# Altium schematic symbol library kmilo17pet-NSC_Interface.SchLib: 1433 symbols (part 49 of 51)
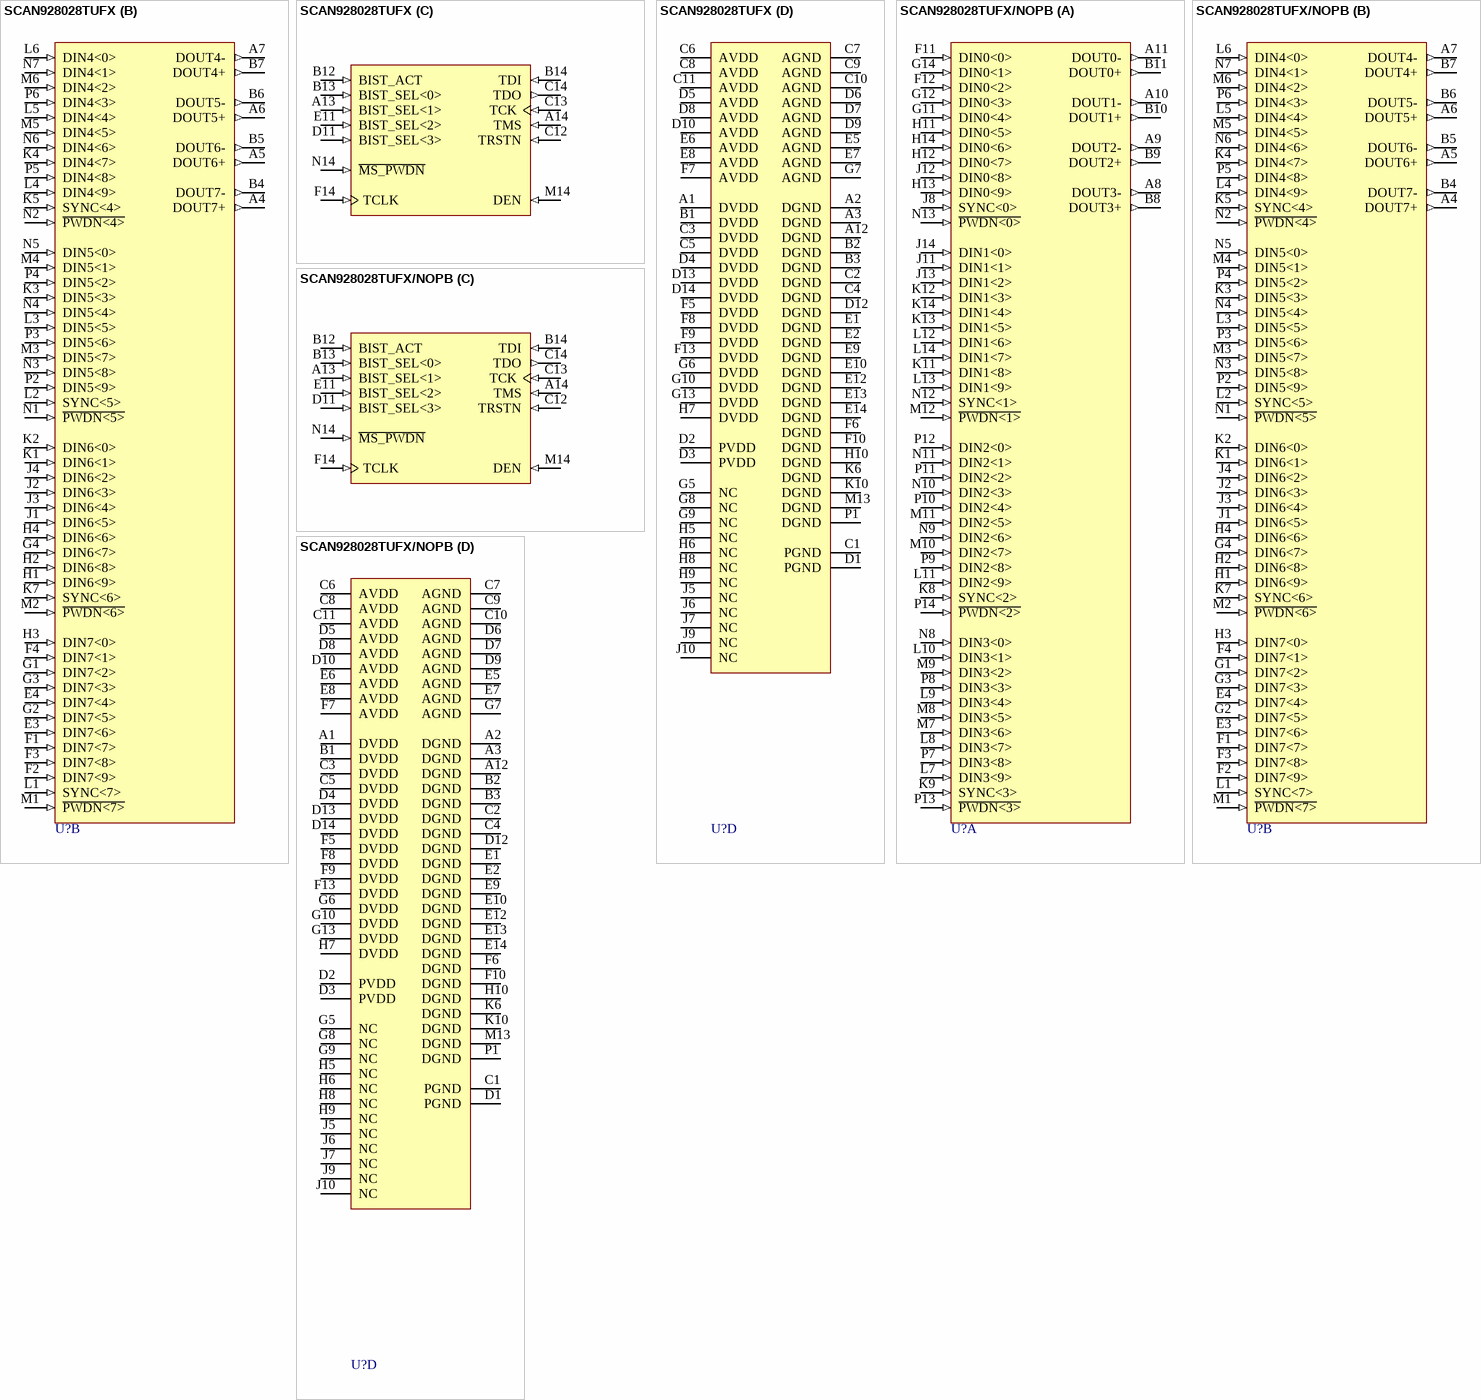
[diagram p172: symbols SCAN928028TUFX to SCAN928028TUFX/NOPB]

## SCAN928028TUFX/NOPB
designator U?
8 Channel 10:1 Serializer with IEEE 1149.1 and At-Speed BIST, 196-pin LBGA, Pb-Free; PartNumber: SCAN928028TUFX/NOPB; Manufacturer: National Semiconductor; PackageTopMarking: NSUZXYYTTE#*SCAN928028T*UF*BBBBB; PowerWise: N; CompType: Interface IC; High-Reliability: Y; DatasheetVersion: May-2008; PackageVersion: revC, Jul-2005; PackageReference: UJB196A; PackageDescription: LBGA, 15 x 15 x 1.37mm, 196 Ball, 1.0mm Pitch; RoHS: Y; PinCount: 196; Code_JEDEC: MO-192-AAE-1; ComponentLink1Description: Manufacturer URL; ComponentLink1URL: http://www.national.com/; ComponentLink2Description: SCAN928028 Datasheet; ComponentLink2URL: http://www.national.com/ds/SC/SCAN928028.pdf; ComponentLink3Description: SCAN928028 Web Page; ComponentLink3URL: http://www.national.com/pf/SC/SCAN928028.html; ComponentLink4Description: UJB196A Package Page; ComponentLink4URL: http://www.national.com/packaging/folders/ujb196a.html
footprint UJB196A (BGA, 196-Leads, Body 15x15mm, Pitch 1mm)
part A pins: A8 DOUT3- (out), A9 DOUT2- (out), A10 DOUT1- (out), A11 DOUT0- (out), B8 DOUT3+ (out), B9 DOUT2+ (out), B10 DOUT1+ (out), B11 DOUT0+ (out), F11 DIN0<0> (in), F12 DIN0<2> (in), G11 DIN0<4> (in), G12 DIN0<3> (in), G14 DIN0<1> (in), H11 DIN0<5> (in), H12 DIN0<7> (in), H13 DIN0<9> (in), H14 DIN0<6> (in), J8 SYNC<0> (in), J11 DIN1<1> (in), J12 DIN0<8> (in), J13 DIN1<2> (in), J14 DIN1<0> (in), K8 SYNC<2> (in), K9 SYNC<3> (in), K11 DIN1<8> (in), K12 DIN1<3> (in), K13 DIN1<5> (in), K14 DIN1<4> (in), L7 DIN3<9> (in), L8 DIN3<7> (in), L9 DIN3<4> (in), L10 DIN3<1> (in), L11 DIN2<9> (in), L12 DIN1<6> (in), L13 DIN1<9> (in), L14 DIN1<7> (in), M7 DIN3<6> (in), M8 DIN3<5> (in), M9 DIN3<2> (in), M10 DIN2<7> (in), M11 DIN2<5> (in), M12 ~{PWDN<1>} (in), N8 DIN3<0> (in), N9 DIN2<6> (in), N10 DIN2<3> (in), N11 DIN2<1> (in), N12 SYNC<1> (in), N13 ~{PWDN<0>} (in), P7 DIN3<8> (in), P8 DIN3<3> (in), P9 DIN2<8> (in), P10 DIN2<4> (in), P11 DIN2<2> (in), P12 DIN2<0> (in), P13 ~{PWDN<3>} (in), P14 ~{PWDN<2>} (in)
part B pins: A4 DOUT7+ (out), A5 DOUT6+ (out), A6 DOUT5+ (out), A7 DOUT4- (out), B4 DOUT7- (out), B5 DOUT6- (out), B6 DOUT5- (out), B7 DOUT4+ (out), E3 DIN7<6> (in), E4 DIN7<4> (in), F1 DIN7<7> (in), F2 DIN7<9> (in), F3 DIN7<8> (in), F4 DIN7<1> (in), G1 DIN7<2> (in), G2 DIN7<5> (in), G3 DIN7<3> (in), G4 DIN6<7> (in), H1 DIN6<9> (in), H2 DIN6<8> (in), H3 DIN7<0> (in), H4 DIN6<6> (in), J1 DIN6<5> (in), J2 DIN6<3> (in), J3 DIN6<4> (in), J4 DIN6<2> (in), K1 DIN6<1> (in), K2 DIN6<0> (in), K3 DIN5<3> (in), K4 DIN4<7> (in), K5 SYNC<4> (in), K7 SYNC<6> (in), L1 SYNC<7> (in), L2 SYNC<5> (in), L3 DIN5<5> (in), L4 DIN4<9> (in), L5 DIN4<4> (in), L6 DIN4<0> (in), M1 ~{PWDN<7>} (in), M2 ~{PWDN<6>} (in), M3 DIN5<7> (in), M4 DIN5<1> (in), M5 DIN4<5> (in), M6 DIN4<2> (in), N1 ~{PWDN<5>} (in), N2 ~{PWDN<4>} (in), N3 DIN5<8> (in), N4 DIN5<4> (in), N5 DIN5<0> (in), N6 DIN4<6> (in), N7 DIN4<1> (in), P2 DIN5<9> (in), P3 DIN5<6> (in), P4 DIN5<2> (in), P5 DIN4<8> (in), P6 DIN4<3> (in)
part C pins: A13 BIST_SEL<1> (in), A14 TMS (in), B12 BIST_ACT (in), B13 BIST_SEL<0> (in), B14 TDI (in), C12 TRSTN (in), C13 TCK (in), C14 TDO (out), D11 BIST_SEL<3> (in), E11 BIST_SEL<2> (in), F14 TCLK (in), M14 DEN (in), N14 ~{MS_PWDN} (in)
part D pins: A1 DVDD (power), A2 DGND (power), A3 DGND (power), A12 DGND (power), B1 DVDD (power), B2 DGND (power), B3 DGND (power), C1 PGND (power), C2 DGND (power), C3 DVDD (power), C4 DGND (power), C5 DVDD (power), C6 AVDD (power), C7 AGND (power), C8 AVDD (power), C9 AGND (power), C10 AGND (power), C11 AVDD (power), D1 PGND (power), D2 PVDD (power), D3 PVDD (power), D4 DVDD (power), D5 AVDD (power), D6 AGND (power), D7 AGND (power), D8 AVDD (power), D9 AGND (power), D10 AVDD (power), D12 DGND (power), D13 DVDD (power), D14 DVDD (power), E1 DGND (power), E2 DGND (power), E5 AGND (power), E6 AVDD (power), E7 AGND (power), E8 AVDD (power), E9 DGND (power), E10 DGND (power), E12 DGND (power), E13 DGND (power), E14 DGND (power), F5 DVDD (power), F6 DGND (power), F7 AVDD (power), F8 DVDD (power), F9 DVDD (power), F10 DGND (power), F13 DVDD (power), G5 NC, G6 DVDD (power), G7 AGND (power), G8 NC, G9 NC, G10 DVDD (power), G13 DVDD (power), H5 NC, H6 NC, H7 DVDD (power), H8 NC, H9 NC, H10 DGND (power), J5 NC, J6 NC, J7 NC, J9 NC, J10 NC, K6 DGND (power), K10 DGND (power), M13 DGND (power), P1 DGND (power)

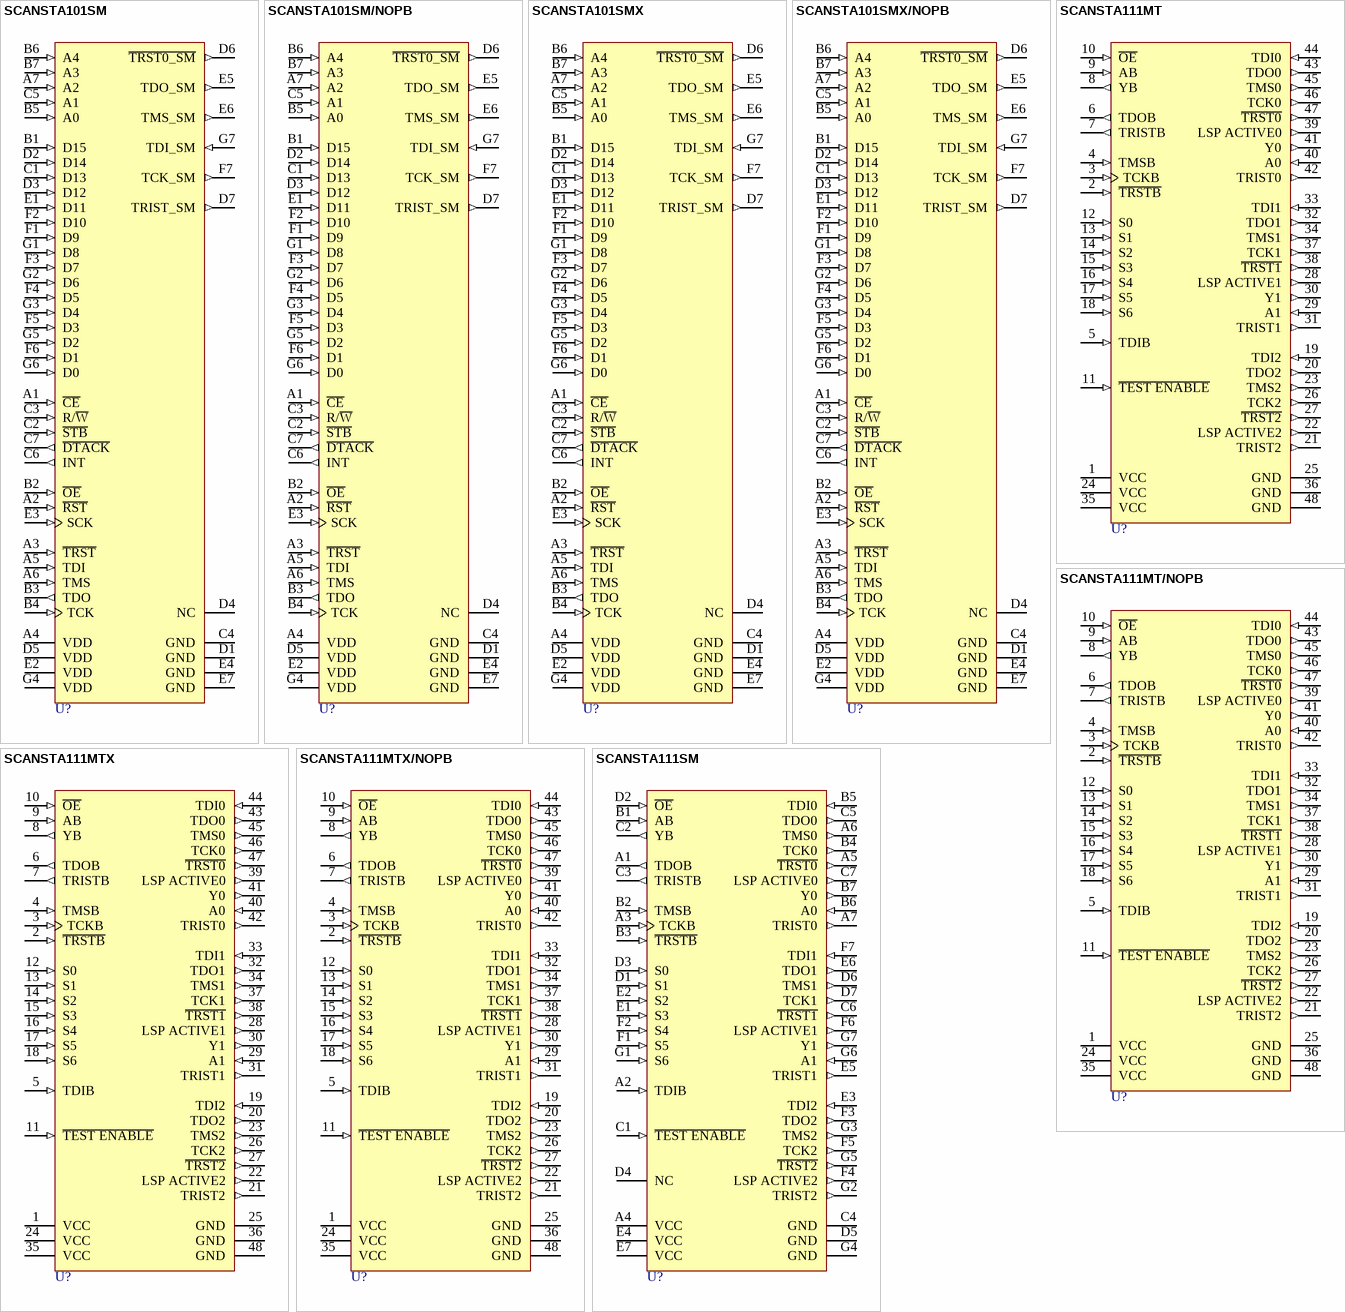
[diagram p120: symbols SCANSTA101SM to SCANSTA111SM]

## SCANSTA101SM
designator U?
Low Voltage IEEE 1149.1 STA Master, 49-pin FBGA; PartNumber: SCANSTA101SM; Manufacturer: National Semiconductor; PackageTopMarking: NSUZXYTTE#*SCANSTA101*SM; PowerWise: N; CompType: Interface IC; High-Reliability: Y; DatasheetVersion: Jan-2010; PackageVersion: revB, Jan, 2003; PackageReference: SLC49A; PackageDescription: FBGA, Plastic, Laminated, 7 x 7 x 1.4mm Body, 49 Ball, 0.8mm Pitch; RoHS: N; PinCount: 49; ComponentLink1Description: Manufacturer URL; ComponentLink1URL: http://www.national.com/; ComponentLink2Description: SCANSTA101 Datasheet; ComponentLink2URL: http://www.national.com/ds/SC/SCANSTA101.pdf; ComponentLink3Description: SCANSTA101 Web Page; ComponentLink3URL: http://www.national.com/pf/SC/SCANSTA101.html; ComponentLink4Description: SLC49A Package Page; ComponentLink4URL: http://www.national.com/packaging/folders/slc49a.html
footprint SLC49A (BGA, 49-Leads, Body 7x7mm, Pitch 0.8mm)
pins: A1 ~{CE} (in), A2 ~{RST} (in), A3 ~{TRST} (in), A4 VDD (power), A5 TDI (in), A6 TMS (in), A7 A2 (in), B1 D15 (in), B2 ~{OE} (in), B3 TDO (out), B4 TCK (in), B5 A0 (in), B6 A4 (in), B7 A3 (in), C1 D13 (in), C2 ~{STB} (in), C3 R/~{W} (in), C4 GND (power), C5 A1 (in), C6 INT (out), C7 ~{DTACK} (out), D1 GND (power), D2 D14 (in), D3 D12 (in), D4 NC, D5 VDD (power), D6 ~{TRST0_SM} (out), D7 TRIST_SM (out), E1 D11 (in), E2 VDD (power), E3 SCK (in), E4 GND (power), E5 TDO_SM (out), E6 TMS_SM (out), E7 GND (power), F1 D9 (in), F2 D10 (in), F3 D7 (in), F4 D5 (in), F5 D3 (in), F6 D1 (in), F7 TCK_SM (out), G1 D8 (in), G2 D6 (in), G3 D4 (in), G4 VDD (power), G5 D2 (in), G6 D0 (in), G7 TDI_SM (in)

## SCANSTA101SM/NOPB
designator U?
Low Voltage IEEE 1149.1 System Test Access (STA) Master, 49-pin FBGA, Pb-Free; PartNumber: SCANSTA101SM/NOPB; Manufacturer: National Semiconductor; PackageTopMarking: NSUZXYTTE#*SCANSTA101*SM; PowerWise: N; CompType: Interface IC; High-Reliability: Y; DatasheetVersion: Jan-2010; PackageVersion: revB, Jan, 2003; PackageReference: SLC49A; PackageDescription: FBGA, Plastic, Laminated, 7 x 7 x 1.4mm Body, 49 Ball, 0.8mm Pitch; RoHS: Y; PinCount: 49; ComponentLink1Description: Manufacturer URL; ComponentLink1URL: http://www.national.com/; ComponentLink2Description: SCANSTA101 Datasheet; ComponentLink2URL: http://www.national.com/ds/SC/SCANSTA101.pdf; ComponentLink3Description: SCANSTA101 Web Page; ComponentLink3URL: http://www.national.com/pf/SC/SCANSTA101.html; ComponentLink4Description: SLC49A Package Page; ComponentLink4URL: http://www.national.com/packaging/folders/slc49a.html
footprint SLC49A (BGA, 49-Leads, Body 7x7mm, Pitch 0.8mm)
pins: A1 ~{CE} (in), A2 ~{RST} (in), A3 ~{TRST} (in), A4 VDD (power), A5 TDI (in), A6 TMS (in), A7 A2 (in), B1 D15 (in), B2 ~{OE} (in), B3 TDO (out), B4 TCK (in), B5 A0 (in), B6 A4 (in), B7 A3 (in), C1 D13 (in), C2 ~{STB} (in), C3 R/~{W} (in), C4 GND (power), C5 A1 (in), C6 INT (out), C7 ~{DTACK} (out), D1 GND (power), D2 D14 (in), D3 D12 (in), D4 NC, D5 VDD (power), D6 ~{TRST0_SM} (out), D7 TRIST_SM (out), E1 D11 (in), E2 VDD (power), E3 SCK (in), E4 GND (power), E5 TDO_SM (out), E6 TMS_SM (out), E7 GND (power), F1 D9 (in), F2 D10 (in), F3 D7 (in), F4 D5 (in), F5 D3 (in), F6 D1 (in), F7 TCK_SM (out), G1 D8 (in), G2 D6 (in), G3 D4 (in), G4 VDD (power), G5 D2 (in), G6 D0 (in), G7 TDI_SM (in)

## SCANSTA101SMX
designator U?
Low Voltage IEEE 1149.1 System Test Access (STA) Master, 49-pin FBGA; PartNumber: SCANSTA101SMX; Manufacturer: National Semiconductor; PackageTopMarking: NSUZXYTT*SCANSTA101*SM; PowerWise: N; CompType: Interface IC; High-Reliability: Y; DatasheetVersion: Jan-2010; PackageVersion: revB, Jan, 2003; PackageReference: SLC49A; PackageDescription: FBGA, Plastic, Laminated, 7 x 7 x 1.4mm Body, 49 Ball, 0.8mm Pitch; RoHS: N; PinCount: 49; ComponentLink1Description: Manufacturer URL; ComponentLink1URL: http://www.national.com/; ComponentLink2Description: SCANSTA101 Datasheet; ComponentLink2URL: http://www.national.com/ds/SC/SCANSTA101.pdf; ComponentLink3Description: SCANSTA101 Web Page; ComponentLink3URL: http://www.national.com/pf/SC/SCANSTA101.html; ComponentLink4Description: SLC49A Package Page; ComponentLink4URL: http://www.national.com/packaging/folders/slc49a.html
footprint SLC49A (BGA, 49-Leads, Body 7x7mm, Pitch 0.8mm)
pins: A1 ~{CE} (in), A2 ~{RST} (in), A3 ~{TRST} (in), A4 VDD (power), A5 TDI (in), A6 TMS (in), A7 A2 (in), B1 D15 (in), B2 ~{OE} (in), B3 TDO (out), B4 TCK (in), B5 A0 (in), B6 A4 (in), B7 A3 (in), C1 D13 (in), C2 ~{STB} (in), C3 R/~{W} (in), C4 GND (power), C5 A1 (in), C6 INT (out), C7 ~{DTACK} (out), D1 GND (power), D2 D14 (in), D3 D12 (in), D4 NC, D5 VDD (power), D6 ~{TRST0_SM} (out), D7 TRIST_SM (out), E1 D11 (in), E2 VDD (power), E3 SCK (in), E4 GND (power), E5 TDO_SM (out), E6 TMS_SM (out), E7 GND (power), F1 D9 (in), F2 D10 (in), F3 D7 (in), F4 D5 (in), F5 D3 (in), F6 D1 (in), F7 TCK_SM (out), G1 D8 (in), G2 D6 (in), G3 D4 (in), G4 VDD (power), G5 D2 (in), G6 D0 (in), G7 TDI_SM (in)

## SCANSTA101SMX/NOPB
designator U?
Low Voltage IEEE 1149.1 System Test Access (STA) Master, 49-pin FBGA, Pb-Free; PartNumber: SCANSTA101SMX/NOPB; Manufacturer: National Semiconductor; PackageTopMarking: NSUZXYTT*SCANSTA101*SM; PowerWise: N; CompType: Interface IC; High-Reliability: Y; DatasheetVersion: Jan-2010; PackageVersion: revB, Jan, 2003; PackageReference: SLC49A; PackageDescription: FBGA, Plastic, Laminated, 7 x 7 x 1.4mm Body, 49 Ball, 0.8mm Pitch; RoHS: Y; PinCount: 49; ComponentLink1Description: Manufacturer URL; ComponentLink1URL: http://www.national.com/; ComponentLink2Description: SCANSTA101 Datasheet; ComponentLink2URL: http://www.national.com/ds/SC/SCANSTA101.pdf; ComponentLink3Description: SCANSTA101 Web Page; ComponentLink3URL: http://www.national.com/pf/SC/SCANSTA101.html; ComponentLink4Description: SLC49A Package Page; ComponentLink4URL: http://www.national.com/packaging/folders/slc49a.html
footprint SLC49A (BGA, 49-Leads, Body 7x7mm, Pitch 0.8mm)
pins: A1 ~{CE} (in), A2 ~{RST} (in), A3 ~{TRST} (in), A4 VDD (power), A5 TDI (in), A6 TMS (in), A7 A2 (in), B1 D15 (in), B2 ~{OE} (in), B3 TDO (out), B4 TCK (in), B5 A0 (in), B6 A4 (in), B7 A3 (in), C1 D13 (in), C2 ~{STB} (in), C3 R/~{W} (in), C4 GND (power), C5 A1 (in), C6 INT (out), C7 ~{DTACK} (out), D1 GND (power), D2 D14 (in), D3 D12 (in), D4 NC, D5 VDD (power), D6 ~{TRST0_SM} (out), D7 TRIST_SM (out), E1 D11 (in), E2 VDD (power), E3 SCK (in), E4 GND (power), E5 TDO_SM (out), E6 TMS_SM (out), E7 GND (power), F1 D9 (in), F2 D10 (in), F3 D7 (in), F4 D5 (in), F5 D3 (in), F6 D1 (in), F7 TCK_SM (out), G1 D8 (in), G2 D6 (in), G3 D4 (in), G4 VDD (power), G5 D2 (in), G6 D0 (in), G7 TDI_SM (in)

## SCANSTA111MT
designator U?
Enhanced SCAN bridge Multidrop Addressable IEEE 1149.1 (JTAG) Port, 48-pin TSSOP; PartNumber: SCANSTA111MT; Manufacturer: National Semiconductor; PackageTopMarking: NSUZXYTTE#*SCANSTA111MT; PowerWise: N; CompType: Interface IC; High-Reliability: Y; DatasheetVersion: Feb-2010; PackageVersion: revE, Apr-2003; PackageReference: MTD48; PackageDescription: Molded TSSOP, Jedec, 12.5 x 6.1 x 0.9mm Body, 48 Lead, 0.50mm Pitch; RoHS: N; PinCount: 48; Code_JEDEC: MO-153-ED; ComponentLink1Description: Manufacturer URL; ComponentLink1URL: http://www.national.com/; ComponentLink2Description: SCANSTA111 Datasheet; ComponentLink2URL: http://www.national.com/ds/SC/SCANSTA111.pdf; ComponentLink3Description: SCANSTA111 Web Page; ComponentLink3URL: http://www.national.com/pf/SC/SCANSTA111.html; ComponentLink4Description: MTD48 Package Page; ComponentLink4URL: http://www.national.com/packaging/folders/mtd48.html
footprint MTD48_N (TSSOP, 48-Leads, Body 12.5x6.1mm, Pitch 0.5mm, IPC Medium Density)
footprint MTD48_L (TSSOP, 48-Leads, Body 12.5x6.1mm, Pitch 0.5mm, IPC High Density)
footprint MTD48_M (TSSOP, 48-Leads, Body 12.5x6.1mm, Pitch 0.5mm, IPC Low Density)
pins: 1 VCC (power), 2 ~{TRSTB} (in), 3 TCKB (in), 4 TMSB (in), 5 TDIB (in), 6 TDOB (out), 7 TRISTB (out), 8 YB (out), 9 AB (in), 10 ~{OE} (in), 11 ~{TEST ENABLE} (in), 12 S0 (in), 13 S1 (in), 14 S2 (in), 15 S3 (in), 16 S4 (in), 17 S5 (in), 18 S6 (in), 19 TDI2 (in), 20 TDO2 (out), 21 TRIST2 (out), 22 LSP ACTIVE2 (out), 23 TMS2 (out), 24 VCC (power), 25 GND (power), 26 TCK2 (out), 27 ~{TRST2} (out), 28 LSP ACTIVE1 (out), 29 A1 (in), 30 Y1 (out), 31 TRIST1 (out), 32 TDO1 (out), 33 TDI1 (in), 34 TMS1 (out), 35 VCC (power), 36 GND (power), 37 TCK1 (out), 38 ~{TRST1} (out), 39 LSP ACTIVE0 (out), 40 A0 (in), 41 Y0 (out), 42 TRIST0 (out), 43 TDO0 (out), 44 TDI0 (in), 45 TMS0 (out), 46 TCK0 (out), 47 ~{TRST0} (out), 48 GND (power)

## SCANSTA111MT/NOPB
designator U?
Enhanced SCAN bridge Multidrop Addressable IEEE 1149.1 (JTAG) Port, 48-pin TSSOP, Pb-Free; PartNumber: SCANSTA111MT/NOPB; Manufacturer: National Semiconductor; PackageTopMarking: NSUZXYTTE#*SCANSTA111MT; PowerWise: N; CompType: Interface IC; High-Reliability: Y; DatasheetVersion: Feb-2010; PackageVersion: revE, Apr-2003; PackageReference: MTD48; PackageDescription: Molded TSSOP, Jedec, 12.5 x 6.1 x 0.9mm Body, 48 Lead, 0.50mm Pitch; RoHS: Y; PinCount: 48; Code_JEDEC: MO-153-ED; ComponentLink1Description: Manufacturer URL; ComponentLink1URL: http://www.national.com/; ComponentLink2Description: SCANSTA111 Datasheet; ComponentLink2URL: http://www.national.com/ds/SC/SCANSTA111.pdf; ComponentLink3Description: SCANSTA111 Web Page; ComponentLink3URL: http://www.national.com/pf/SC/SCANSTA111.html; ComponentLink4Description: MTD48 Package Page; ComponentLink4URL: http://www.national.com/packaging/folders/mtd48.html
footprint MTD48_N (TSSOP, 48-Leads, Body 12.5x6.1mm, Pitch 0.5mm, IPC Medium Density)
footprint MTD48_L (TSSOP, 48-Leads, Body 12.5x6.1mm, Pitch 0.5mm, IPC High Density)
footprint MTD48_M (TSSOP, 48-Leads, Body 12.5x6.1mm, Pitch 0.5mm, IPC Low Density)
pins: 1 VCC (power), 2 ~{TRSTB} (in), 3 TCKB (in), 4 TMSB (in), 5 TDIB (in), 6 TDOB (out), 7 TRISTB (out), 8 YB (out), 9 AB (in), 10 ~{OE} (in), 11 ~{TEST ENABLE} (in), 12 S0 (in), 13 S1 (in), 14 S2 (in), 15 S3 (in), 16 S4 (in), 17 S5 (in), 18 S6 (in), 19 TDI2 (in), 20 TDO2 (out), 21 TRIST2 (out), 22 LSP ACTIVE2 (out), 23 TMS2 (out), 24 VCC (power), 25 GND (power), 26 TCK2 (out), 27 ~{TRST2} (out), 28 LSP ACTIVE1 (out), 29 A1 (in), 30 Y1 (out), 31 TRIST1 (out), 32 TDO1 (out), 33 TDI1 (in), 34 TMS1 (out), 35 VCC (power), 36 GND (power), 37 TCK1 (out), 38 ~{TRST1} (out), 39 LSP ACTIVE0 (out), 40 A0 (in), 41 Y0 (out), 42 TRIST0 (out), 43 TDO0 (out), 44 TDI0 (in), 45 TMS0 (out), 46 TCK0 (out), 47 ~{TRST0} (out), 48 GND (power)

## SCANSTA111MTX
designator U?
Enhanced SCAN bridge Multidrop Addressable IEEE 1149.1 (JTAG) Port, 48-pin TSSOP; PartNumber: SCANSTA111MTX; Manufacturer: National Semiconductor; PackageTopMarking: NSUZXYTTE#*SCANSTA111MT; PowerWise: N; CompType: Interface IC; High-Reliability: Y; DatasheetVersion: Feb-2010; PackageVersion: revE, Apr-2003; PackageReference: MTD48; PackageDescription: Molded TSSOP, Jedec, 12.5 x 6.1 x 0.9mm Body, 48 Lead, 0.50mm Pitch; RoHS: N; PinCount: 48; Code_JEDEC: MO-153-ED; ComponentLink1Description: Manufacturer URL; ComponentLink1URL: http://www.national.com/; ComponentLink2Description: SCANSTA111 Datasheet; ComponentLink2URL: http://www.national.com/ds/SC/SCANSTA111.pdf; ComponentLink3Description: SCANSTA111 Web Page; ComponentLink3URL: http://www.national.com/pf/SC/SCANSTA111.html; ComponentLink4Description: MTD48 Package Page; ComponentLink4URL: http://www.national.com/packaging/folders/mtd48.html
footprint MTD48_N (TSSOP, 48-Leads, Body 12.5x6.1mm, Pitch 0.5mm, IPC Medium Density)
footprint MTD48_L (TSSOP, 48-Leads, Body 12.5x6.1mm, Pitch 0.5mm, IPC High Density)
footprint MTD48_M (TSSOP, 48-Leads, Body 12.5x6.1mm, Pitch 0.5mm, IPC Low Density)
pins: 1 VCC (power), 2 ~{TRSTB} (in), 3 TCKB (in), 4 TMSB (in), 5 TDIB (in), 6 TDOB (out), 7 TRISTB (out), 8 YB (out), 9 AB (in), 10 ~{OE} (in), 11 ~{TEST ENABLE} (in), 12 S0 (in), 13 S1 (in), 14 S2 (in), 15 S3 (in), 16 S4 (in), 17 S5 (in), 18 S6 (in), 19 TDI2 (in), 20 TDO2 (out), 21 TRIST2 (out), 22 LSP ACTIVE2 (out), 23 TMS2 (out), 24 VCC (power), 25 GND (power), 26 TCK2 (out), 27 ~{TRST2} (out), 28 LSP ACTIVE1 (out), 29 A1 (in), 30 Y1 (out), 31 TRIST1 (out), 32 TDO1 (out), 33 TDI1 (in), 34 TMS1 (out), 35 VCC (power), 36 GND (power), 37 TCK1 (out), 38 ~{TRST1} (out), 39 LSP ACTIVE0 (out), 40 A0 (in), 41 Y0 (out), 42 TRIST0 (out), 43 TDO0 (out), 44 TDI0 (in), 45 TMS0 (out), 46 TCK0 (out), 47 ~{TRST0} (out), 48 GND (power)

## SCANSTA111MTX/NOPB
designator U?
Enhanced SCAN bridge Multidrop Addressable IEEE 1149.1 (JTAG) Port, 48-pin TSSOP, Pb-Free; PartNumber: SCANSTA111MTX/NOPB; Manufacturer: National Semiconductor; PackageTopMarking: NSUZXYTTE#*SCANSTA111MT; PowerWise: N; CompType: Interface IC; High-Reliability: Y; DatasheetVersion: Feb-2010; PackageVersion: revE, Apr-2003; PackageReference: MTD48; PackageDescription: Molded TSSOP, Jedec, 12.5 x 6.1 x 0.9mm Body, 48 Lead, 0.50mm Pitch; RoHS: Y; PinCount: 48; Code_JEDEC: MO-153-ED; ComponentLink1Description: Manufacturer URL; ComponentLink1URL: http://www.national.com/; ComponentLink2Description: SCANSTA111 Datasheet; ComponentLink2URL: http://www.national.com/ds/SC/SCANSTA111.pdf; ComponentLink3Description: SCANSTA111 Web Page; ComponentLink3URL: http://www.national.com/pf/SC/SCANSTA111.html; ComponentLink4Description: MTD48 Package Page; ComponentLink4URL: http://www.national.com/packaging/folders/mtd48.html
footprint MTD48_N (TSSOP, 48-Leads, Body 12.5x6.1mm, Pitch 0.5mm, IPC Medium Density)
footprint MTD48_L (TSSOP, 48-Leads, Body 12.5x6.1mm, Pitch 0.5mm, IPC High Density)
footprint MTD48_M (TSSOP, 48-Leads, Body 12.5x6.1mm, Pitch 0.5mm, IPC Low Density)
pins: 1 VCC (power), 2 ~{TRSTB} (in), 3 TCKB (in), 4 TMSB (in), 5 TDIB (in), 6 TDOB (out), 7 TRISTB (out), 8 YB (out), 9 AB (in), 10 ~{OE} (in), 11 ~{TEST ENABLE} (in), 12 S0 (in), 13 S1 (in), 14 S2 (in), 15 S3 (in), 16 S4 (in), 17 S5 (in), 18 S6 (in), 19 TDI2 (in), 20 TDO2 (out), 21 TRIST2 (out), 22 LSP ACTIVE2 (out), 23 TMS2 (out), 24 VCC (power), 25 GND (power), 26 TCK2 (out), 27 ~{TRST2} (out), 28 LSP ACTIVE1 (out), 29 A1 (in), 30 Y1 (out), 31 TRIST1 (out), 32 TDO1 (out), 33 TDI1 (in), 34 TMS1 (out), 35 VCC (power), 36 GND (power), 37 TCK1 (out), 38 ~{TRST1} (out), 39 LSP ACTIVE0 (out), 40 A0 (in), 41 Y0 (out), 42 TRIST0 (out), 43 TDO0 (out), 44 TDI0 (in), 45 TMS0 (out), 46 TCK0 (out), 47 ~{TRST0} (out), 48 GND (power)

## SCANSTA111SM
designator U?
Enhanced SCAN bridge Multidrop Addressable IEEE 1149.1 (JTAG) Port, 49-pin FBGA; PartNumber: SCANSTA111SM; Manufacturer: National Semiconductor; PackageTopMarking: NSUZXYTTE#*SCANSTA111*SM; PowerWise: N; CompType: Interface IC; High-Reliability: Y; DatasheetVersion: Feb-2010; PackageVersion: revB, Jan, 2003; PackageReference: SLC49A; PackageDescription: FBGA, Plastic, Laminated, 7 x 7 x 1.4mm Body, 49 Ball, 0.8mm Pitch; RoHS: N; PinCount: 49; ComponentLink1Description: Manufacturer URL; ComponentLink1URL: http://www.national.com/; ComponentLink2Description: SCANSTA111 Datasheet; ComponentLink2URL: http://www.national.com/ds/SC/SCANSTA111.pdf; ComponentLink3Description: SCANSTA111 Web Page; ComponentLink3URL: http://www.national.com/pf/SC/SCANSTA111.html; ComponentLink4Description: SLC49A Package Page; ComponentLink4URL: http://www.national.com/packaging/folders/slc49a.html
footprint SLC49A (BGA, 49-Leads, Body 7x7mm, Pitch 0.8mm)
pins: A1 TDOB (out), A2 TDIB (in), A3 TCKB (in), A4 VCC (power), A5 ~{TRST0} (out), A6 TMS0 (out), A7 TRIST0 (out), B1 AB (in), B2 TMSB (in), B3 ~{TRSTB} (in), B4 TCK0 (out), B5 TDI0 (in), B6 A0 (in), B7 Y0 (out), C1 ~{TEST ENABLE} (in), C2 YB (out), C3 TRISTB (out), C4 GND (power), C5 TDO0 (out), C6 ~{TRST1} (out), C7 LSP ACTIVE0 (out), D1 S1 (in), D2 ~{OE} (in), D3 S0 (in), D4 NC, D5 GND (power), D6 TMS1 (out), D7 TCK1 (out), E1 S3 (in), E2 S2 (in), E3 TDI2 (in), E4 VCC (power), E5 TRIST1 (out), E6 TDO1 (out), E7 VCC (power), F1 S5 (in), F2 S4 (in), F3 TDO2 (out), F4 LSP ACTIVE2 (out), F5 TCK2 (out), F6 LSP ACTIVE1 (out), F7 TDI1 (in), G1 S6 (in), G2 TRIST2 (out), G3 TMS2 (out), G4 GND (power), G5 ~{TRST2} (out), G6 A1 (in), G7 Y1 (out)

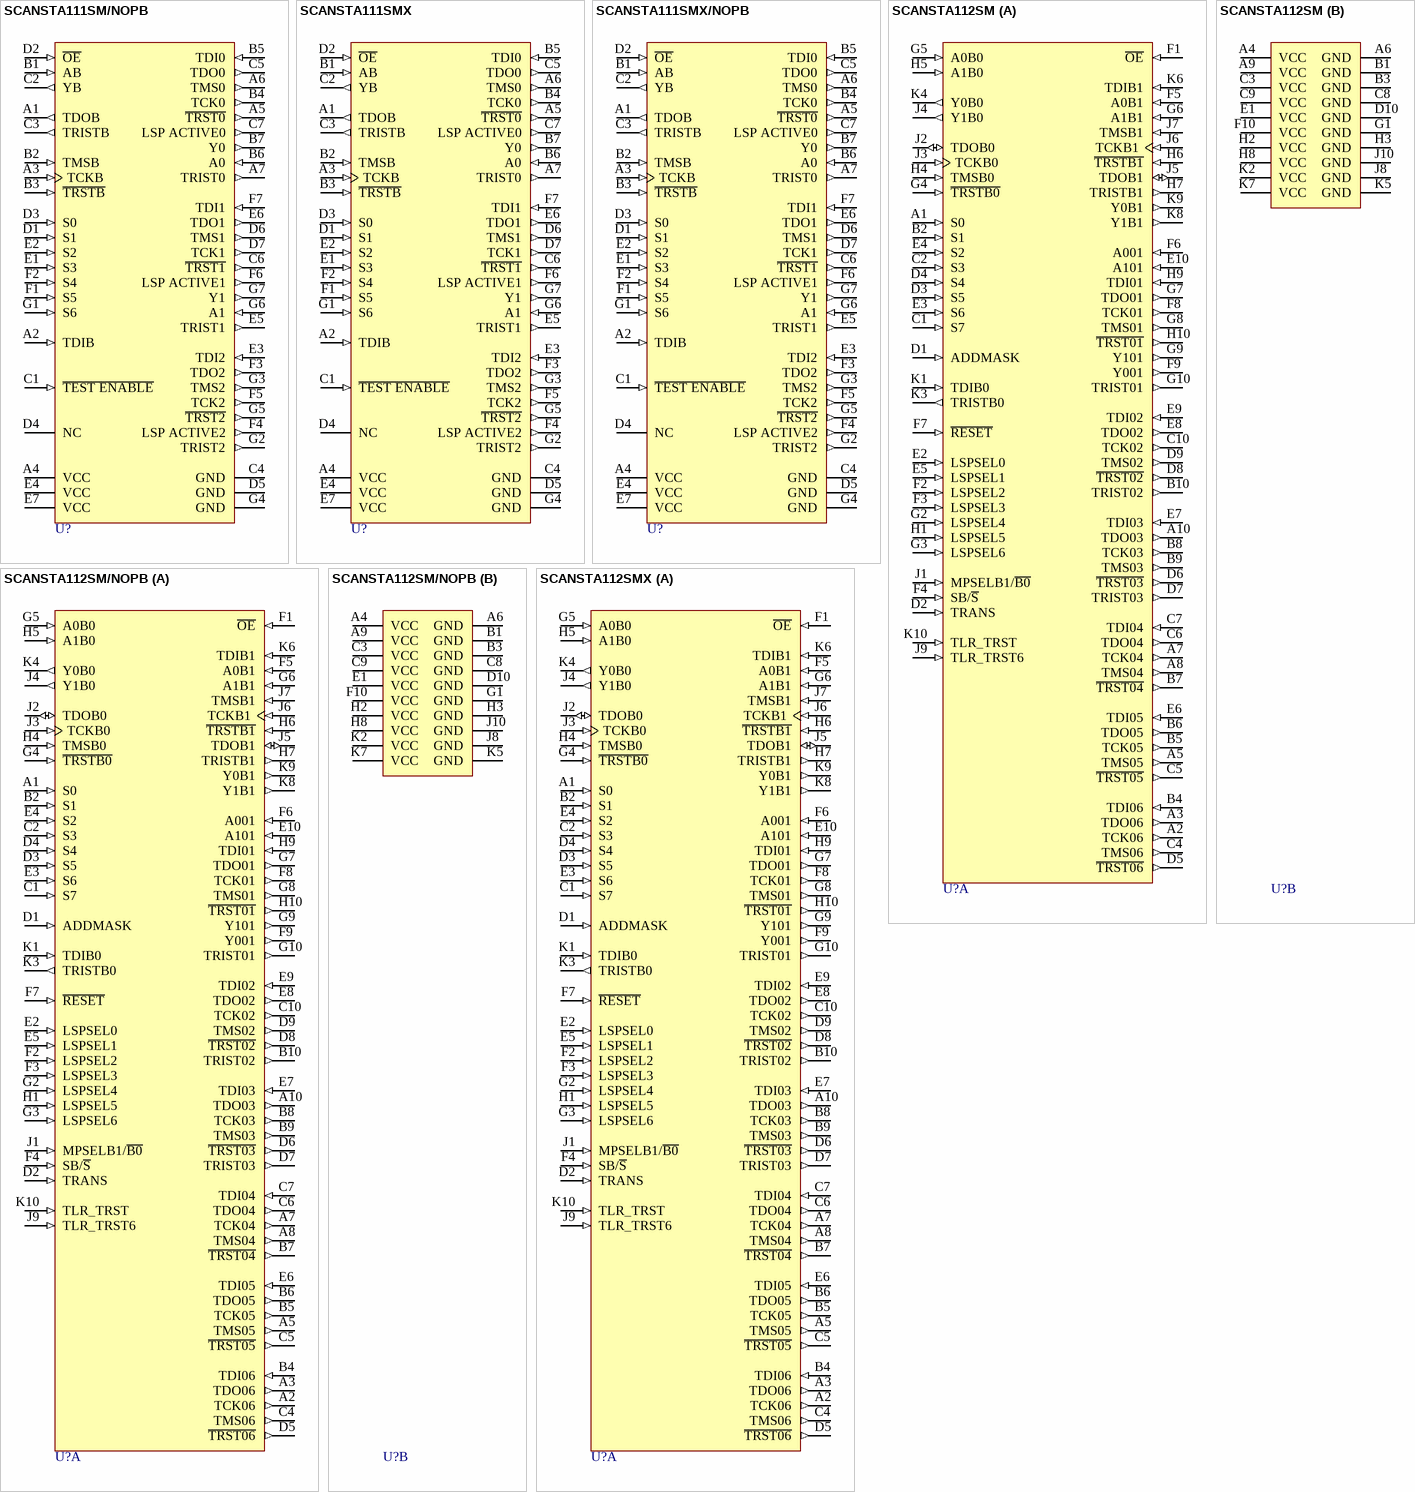
[diagram p121: symbols SCANSTA111SM/NOPB to SCANSTA112SMX]

## SCANSTA111SM/NOPB
designator U?
Enhanced SCAN bridge Multidrop Addressable IEEE 1149.1 (JTAG) Port, 49-pin FBGA, Pb-Free; PartNumber: SCANSTA111SM/NOPB; Manufacturer: National Semiconductor; PackageTopMarking: NSUZXYTTE#*SCANSTA111*SM; PowerWise: N; CompType: Interface IC; High-Reliability: Y; DatasheetVersion: Feb-2010; PackageVersion: revB, Jan, 2003; PackageReference: SLC49A; PackageDescription: FBGA, Plastic, Laminated, 7 x 7 x 1.4mm Body, 49 Ball, 0.8mm Pitch; RoHS: Y; PinCount: 49; ComponentLink1Description: Manufacturer URL; ComponentLink1URL: http://www.national.com/; ComponentLink2Description: SCANSTA111 Datasheet; ComponentLink2URL: http://www.national.com/ds/SC/SCANSTA111.pdf; ComponentLink3Description: SCANSTA111 Web Page; ComponentLink3URL: http://www.national.com/pf/SC/SCANSTA111.html; ComponentLink4Description: SLC49A Package Page; ComponentLink4URL: http://www.national.com/packaging/folders/slc49a.html
footprint SLC49A (BGA, 49-Leads, Body 7x7mm, Pitch 0.8mm)
pins: A1 TDOB (out), A2 TDIB (in), A3 TCKB (in), A4 VCC (power), A5 ~{TRST0} (out), A6 TMS0 (out), A7 TRIST0 (out), B1 AB (in), B2 TMSB (in), B3 ~{TRSTB} (in), B4 TCK0 (out), B5 TDI0 (in), B6 A0 (in), B7 Y0 (out), C1 ~{TEST ENABLE} (in), C2 YB (out), C3 TRISTB (out), C4 GND (power), C5 TDO0 (out), C6 ~{TRST1} (out), C7 LSP ACTIVE0 (out), D1 S1 (in), D2 ~{OE} (in), D3 S0 (in), D4 NC, D5 GND (power), D6 TMS1 (out), D7 TCK1 (out), E1 S3 (in), E2 S2 (in), E3 TDI2 (in), E4 VCC (power), E5 TRIST1 (out), E6 TDO1 (out), E7 VCC (power), F1 S5 (in), F2 S4 (in), F3 TDO2 (out), F4 LSP ACTIVE2 (out), F5 TCK2 (out), F6 LSP ACTIVE1 (out), F7 TDI1 (in), G1 S6 (in), G2 TRIST2 (out), G3 TMS2 (out), G4 GND (power), G5 ~{TRST2} (out), G6 A1 (in), G7 Y1 (out)

## SCANSTA111SMX
designator U?
Enhanced SCAN bridge Multidrop Addressable IEEE 1149.1 (JTAG) Port, 49-pin FBGA; PartNumber: SCANSTA111SMX; Manufacturer: National Semiconductor; PackageTopMarking: NSUZXYTTE#*SCANSTA111*SM; PowerWise: N; CompType: Interface IC; High-Reliability: Y; DatasheetVersion: Feb-2010; PackageVersion: revB, Jan, 2003; PackageReference: SLC49A; PackageDescription: FBGA, Plastic, Laminated, 7 x 7 x 1.4mm Body, 49 Ball, 0.8mm Pitch; RoHS: N; PinCount: 49; ComponentLink1Description: Manufacturer URL; ComponentLink1URL: http://www.national.com/; ComponentLink2Description: SCANSTA111 Datasheet; ComponentLink2URL: http://www.national.com/ds/SC/SCANSTA111.pdf; ComponentLink3Description: SCANSTA111 Web Page; ComponentLink3URL: http://www.national.com/pf/SC/SCANSTA111.html; ComponentLink4Description: SLC49A Package Page; ComponentLink4URL: http://www.national.com/packaging/folders/slc49a.html
footprint SLC49A (BGA, 49-Leads, Body 7x7mm, Pitch 0.8mm)
pins: A1 TDOB (out), A2 TDIB (in), A3 TCKB (in), A4 VCC (power), A5 ~{TRST0} (out), A6 TMS0 (out), A7 TRIST0 (out), B1 AB (in), B2 TMSB (in), B3 ~{TRSTB} (in), B4 TCK0 (out), B5 TDI0 (in), B6 A0 (in), B7 Y0 (out), C1 ~{TEST ENABLE} (in), C2 YB (out), C3 TRISTB (out), C4 GND (power), C5 TDO0 (out), C6 ~{TRST1} (out), C7 LSP ACTIVE0 (out), D1 S1 (in), D2 ~{OE} (in), D3 S0 (in), D4 NC, D5 GND (power), D6 TMS1 (out), D7 TCK1 (out), E1 S3 (in), E2 S2 (in), E3 TDI2 (in), E4 VCC (power), E5 TRIST1 (out), E6 TDO1 (out), E7 VCC (power), F1 S5 (in), F2 S4 (in), F3 TDO2 (out), F4 LSP ACTIVE2 (out), F5 TCK2 (out), F6 LSP ACTIVE1 (out), F7 TDI1 (in), G1 S6 (in), G2 TRIST2 (out), G3 TMS2 (out), G4 GND (power), G5 ~{TRST2} (out), G6 A1 (in), G7 Y1 (out)

## SCANSTA111SMX/NOPB
designator U?
Enhanced SCAN bridge Multidrop Addressable IEEE 1149.1 (JTAG) Port, 49-pin FBGA, Pb-Free; PartNumber: SCANSTA111SMX/NOPB; Manufacturer: National Semiconductor; PackageTopMarking: NSUZXYTTE#*SCANSTA111*SM; PowerWise: N; CompType: Interface IC; High-Reliability: Y; DatasheetVersion: Feb-2010; PackageVersion: revB, Jan, 2003; PackageReference: SLC49A; PackageDescription: FBGA, Plastic, Laminated, 7 x 7 x 1.4mm Body, 49 Ball, 0.8mm Pitch; RoHS: Y; PinCount: 49; ComponentLink1Description: Manufacturer URL; ComponentLink1URL: http://www.national.com/; ComponentLink2Description: SCANSTA111 Datasheet; ComponentLink2URL: http://www.national.com/ds/SC/SCANSTA111.pdf; ComponentLink3Description: SCANSTA111 Web Page; ComponentLink3URL: http://www.national.com/pf/SC/SCANSTA111.html; ComponentLink4Description: SLC49A Package Page; ComponentLink4URL: http://www.national.com/packaging/folders/slc49a.html
footprint SLC49A (BGA, 49-Leads, Body 7x7mm, Pitch 0.8mm)
pins: A1 TDOB (out), A2 TDIB (in), A3 TCKB (in), A4 VCC (power), A5 ~{TRST0} (out), A6 TMS0 (out), A7 TRIST0 (out), B1 AB (in), B2 TMSB (in), B3 ~{TRSTB} (in), B4 TCK0 (out), B5 TDI0 (in), B6 A0 (in), B7 Y0 (out), C1 ~{TEST ENABLE} (in), C2 YB (out), C3 TRISTB (out), C4 GND (power), C5 TDO0 (out), C6 ~{TRST1} (out), C7 LSP ACTIVE0 (out), D1 S1 (in), D2 ~{OE} (in), D3 S0 (in), D4 NC, D5 GND (power), D6 TMS1 (out), D7 TCK1 (out), E1 S3 (in), E2 S2 (in), E3 TDI2 (in), E4 VCC (power), E5 TRIST1 (out), E6 TDO1 (out), E7 VCC (power), F1 S5 (in), F2 S4 (in), F3 TDO2 (out), F4 LSP ACTIVE2 (out), F5 TCK2 (out), F6 LSP ACTIVE1 (out), F7 TDI1 (in), G1 S6 (in), G2 TRIST2 (out), G3 TMS2 (out), G4 GND (power), G5 ~{TRST2} (out), G6 A1 (in), G7 Y1 (out)

## SCANSTA112SM
designator U?
7-Port Multidrop IEEE 1149.1 (JTAG) Multiplexer, 100-pin FBGA; PartNumber: SCANSTA112SM; Manufacturer: National Semiconductor; PackageTopMarking: NSUZXYTTE#*SCANSTA112*SM; PowerWise: N; CompType: Interface IC; High-Reliability: Y; DatasheetVersion: Oct-2005; PackageVersion: revB, Mar-1999; PackageReference: SLC100A; PackageDescription: FBGA, Plastic, Laminated, 10 x 10 x 1.4mm Body, 100 Ball, 0.8mm Pitch; RoHS: N; PinCount: 100; ComponentLink1Description: Manufacturer URL; ComponentLink1URL: http://www.national.com/; ComponentLink2Description: SCANSTA112 Datasheet; ComponentLink2URL: http://www.national.com/ds/SC/SCANSTA112.pdf; ComponentLink3Description: SCANSTA112 Web Page; ComponentLink3URL: http://www.national.com/pf/SC/SCANSTA112.html; ComponentLink4Description: SLC100A Package Page; ComponentLink4URL: http://www.national.com/packaging/folders/slc100a.html
footprint SLC100A (BGA, 100-Leads, Body 10x10mm, Pitch 0.8mm)
part A pins: A1 S0 (in), A2 TCK06 (out), A3 TDO06 (out), A5 TMS05 (out), A7 TCK04 (out), A8 TMS04 (out), A10 TDO03 (out), B2 S1 (in), B4 TDI06 (in), B5 TCK05 (out), B6 TDO05 (out), B7 ~{TRST04} (out), B8 TCK03 (out), B9 TMS03 (out), B10 TRIST02 (out), C1 S7 (in), C2 S3 (in), C4 TMS06 (out), C5 ~{TRST05} (out), C6 TDO04 (out), C7 TDI04 (in), C10 TCK02 (out), D1 ADDMASK (in), D2 TRANS (in), D3 S5 (in), D4 S4 (in), D5 ~{TRST06} (out), D6 ~{TRST03} (out), D7 TRIST03 (out), D8 ~{TRST02} (out), D9 TMS02 (out), E2 LSPSEL0 (in), E3 S6 (in), E4 S2 (in), E5 LSPSEL1 (in), E6 TDI05 (in), E7 TDI03 (in), E8 TDO02 (out), E9 TDI02 (in), E10 A101 (in), F1 ~{OE} (in), F2 LSPSEL2 (in), F3 LSPSEL3 (in), F4 SB/~{S} (in), F5 A0B1 (in), F6 A001 (in), F7 ~{RESET} (in), F8 TCK01 (out), F9 Y001 (out), G2 LSPSEL4 (in), G3 LSPSEL6 (in), G4 ~{TRSTB0} (in), G5 A0B0 (in), G6 A1B1 (in), G7 TDO01 (out), G8 TMS01 (out), G9 Y101 (out), G10 TRIST01 (out), H1 LSPSEL5 (in), H4 TMSB0 (in), H5 A1B0 (in), H6 ~{TRSTB1} (in), H7 TRISTB1 (out), H9 TDI01 (in), H10 ~{TRST01} (out), J1 MPSELB1/~{B0} (in), J2 TDOB0 (io), J3 TCKB0 (in), J4 Y1B0 (out), J5 TDOB1 (io), J6 TCKB1 (in), J7 TMSB1 (in), J9 TLR_TRST6 (in), K1 TDIB0 (in), K3 TRISTB0 (out), K4 Y0B0 (out), K6 TDIB1 (in), K8 Y1B1 (out), K9 Y0B1 (out), K10 TLR_TRST (in)
part B pins: A4 VCC (power), A6 GND (power), A9 VCC (power), B1 GND (power), B3 GND (power), C3 VCC (power), C8 GND (power), C9 VCC (power), D10 GND (power), E1 VCC (power), F10 VCC (power), G1 GND (power), H2 VCC (power), H3 GND (power), H8 VCC (power), J8 GND (power), J10 GND (power), K2 VCC (power), K5 GND (power), K7 VCC (power)

## SCANSTA112SM/NOPB
designator U?
7-Port Multidrop IEEE 1149.1 (JTAG) Multiplexer, 100-pin FBGA, Pb-Free; PartNumber: SCANSTA112SM/NOPB; Manufacturer: National Semiconductor; PackageTopMarking: NSUZXYTTE#*SCANSTA112*SM; PowerWise: N; CompType: Interface IC; High-Reliability: Y; DatasheetVersion: Oct-2005; PackageVersion: revB, Mar-1999; PackageReference: SLC100A; PackageDescription: FBGA, Plastic, Laminated, 10 x 10 x 1.4mm Body, 100 Ball, 0.8mm Pitch; RoHS: Y; PinCount: 100; ComponentLink1Description: Manufacturer URL; ComponentLink1URL: http://www.national.com/; ComponentLink2Description: SCANSTA112 Datasheet; ComponentLink2URL: http://www.national.com/ds/SC/SCANSTA112.pdf; ComponentLink3Description: SCANSTA112 Web Page; ComponentLink3URL: http://www.national.com/pf/SC/SCANSTA112.html; ComponentLink4Description: SLC100A Package Page; ComponentLink4URL: http://www.national.com/packaging/folders/slc100a.html
footprint SLC100A (BGA, 100-Leads, Body 10x10mm, Pitch 0.8mm)
part A pins: A1 S0 (in), A2 TCK06 (out), A3 TDO06 (out), A5 TMS05 (out), A7 TCK04 (out), A8 TMS04 (out), A10 TDO03 (out), B2 S1 (in), B4 TDI06 (in), B5 TCK05 (out), B6 TDO05 (out), B7 ~{TRST04} (out), B8 TCK03 (out), B9 TMS03 (out), B10 TRIST02 (out), C1 S7 (in), C2 S3 (in), C4 TMS06 (out), C5 ~{TRST05} (out), C6 TDO04 (out), C7 TDI04 (in), C10 TCK02 (out), D1 ADDMASK (in), D2 TRANS (in), D3 S5 (in), D4 S4 (in), D5 ~{TRST06} (out), D6 ~{TRST03} (out), D7 TRIST03 (out), D8 ~{TRST02} (out), D9 TMS02 (out), E2 LSPSEL0 (in), E3 S6 (in), E4 S2 (in), E5 LSPSEL1 (in), E6 TDI05 (in), E7 TDI03 (in), E8 TDO02 (out), E9 TDI02 (in), E10 A101 (in), F1 ~{OE} (in), F2 LSPSEL2 (in), F3 LSPSEL3 (in), F4 SB/~{S} (in), F5 A0B1 (in), F6 A001 (in), F7 ~{RESET} (in), F8 TCK01 (out), F9 Y001 (out), G2 LSPSEL4 (in), G3 LSPSEL6 (in), G4 ~{TRSTB0} (in), G5 A0B0 (in), G6 A1B1 (in), G7 TDO01 (out), G8 TMS01 (out), G9 Y101 (out), G10 TRIST01 (out), H1 LSPSEL5 (in), H4 TMSB0 (in), H5 A1B0 (in), H6 ~{TRSTB1} (in), H7 TRISTB1 (out), H9 TDI01 (in), H10 ~{TRST01} (out), J1 MPSELB1/~{B0} (in), J2 TDOB0 (io), J3 TCKB0 (in), J4 Y1B0 (out), J5 TDOB1 (io), J6 TCKB1 (in), J7 TMSB1 (in), J9 TLR_TRST6 (in), K1 TDIB0 (in), K3 TRISTB0 (out), K4 Y0B0 (out), K6 TDIB1 (in), K8 Y1B1 (out), K9 Y0B1 (out), K10 TLR_TRST (in)
part B pins: A4 VCC (power), A6 GND (power), A9 VCC (power), B1 GND (power), B3 GND (power), C3 VCC (power), C8 GND (power), C9 VCC (power), D10 GND (power), E1 VCC (power), F10 VCC (power), G1 GND (power), H2 VCC (power), H3 GND (power), H8 VCC (power), J8 GND (power), J10 GND (power), K2 VCC (power), K5 GND (power), K7 VCC (power)

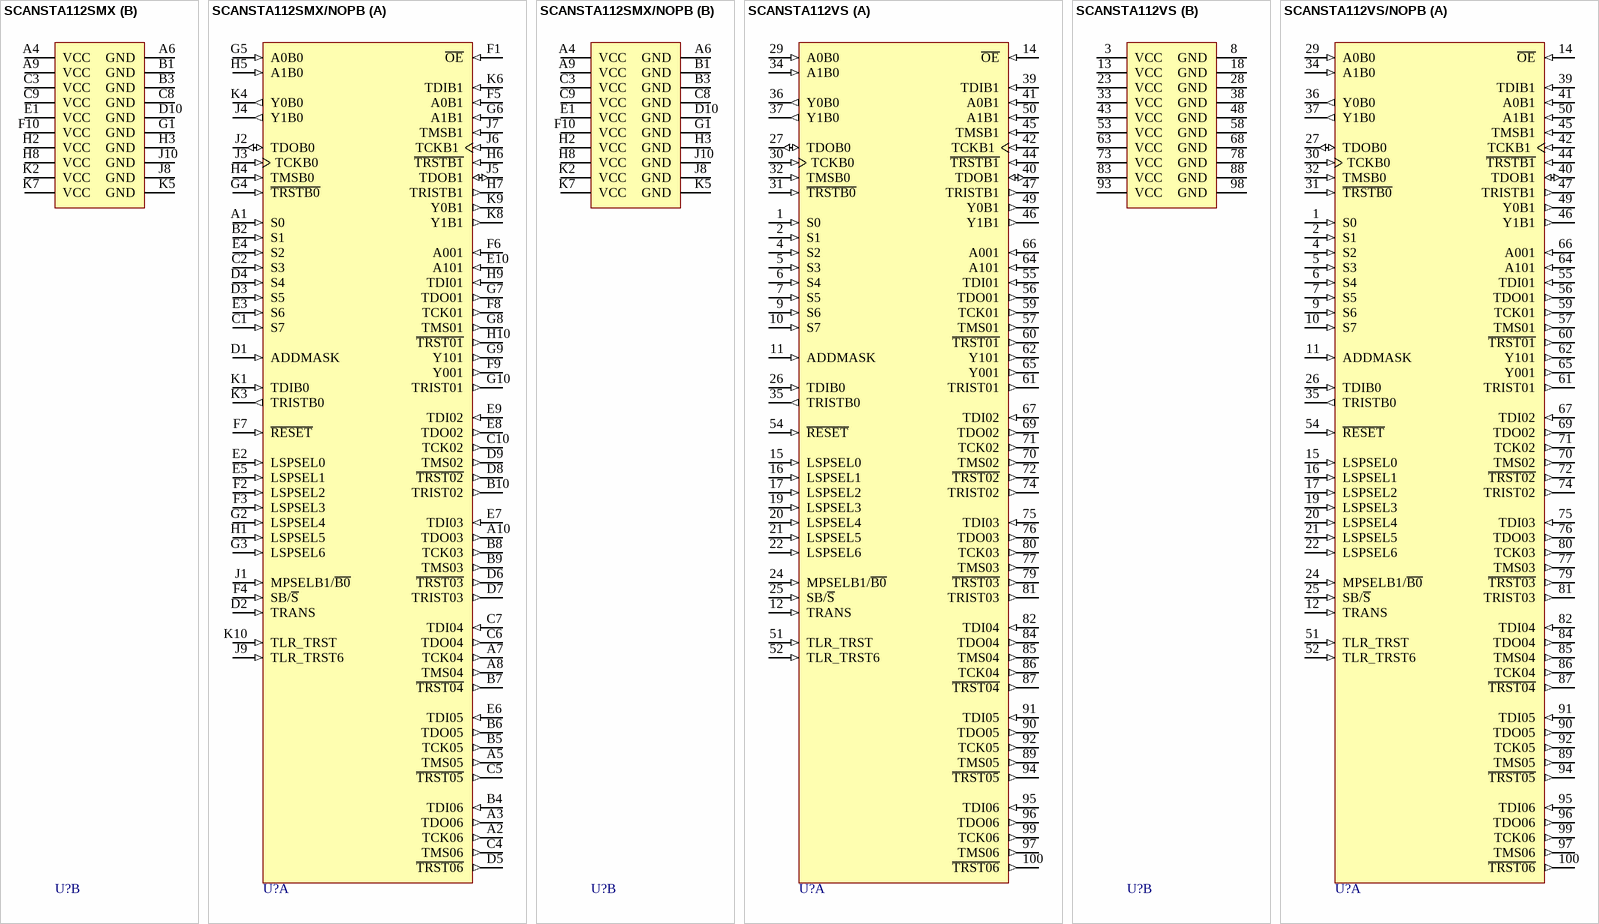
[diagram p122: symbols SCANSTA112SMX to SCANSTA112VS/NOPB]

## SCANSTA112SMX
designator U?
7-Port Multidrop IEEE 1149.1 (JTAG) Multiplexer, 100-pin FBGA; PartNumber: SCANSTA112SMX; Manufacturer: National Semiconductor; PackageTopMarking: NSUZXYTTE#*SCANSTA112*SM; PowerWise: N; CompType: Interface IC; High-Reliability: Y; DatasheetVersion: Oct-2005; PackageVersion: revB, Mar-1999; PackageReference: SLC100A; PackageDescription: FBGA, Plastic, Laminated, 10 x 10 x 1.4mm Body, 100 Ball, 0.8mm Pitch; RoHS: N; PinCount: 100; ComponentLink1Description: Manufacturer URL; ComponentLink1URL: http://www.national.com/; ComponentLink2Description: SCANSTA112 Datasheet; ComponentLink2URL: http://www.national.com/ds/SC/SCANSTA112.pdf; ComponentLink3Description: SCANSTA112 Web Page; ComponentLink3URL: http://www.national.com/pf/SC/SCANSTA112.html; ComponentLink4Description: SLC100A Package Page; ComponentLink4URL: http://www.national.com/packaging/folders/slc100a.html
footprint SLC100A (BGA, 100-Leads, Body 10x10mm, Pitch 0.8mm)
part A pins: A1 S0 (in), A2 TCK06 (out), A3 TDO06 (out), A5 TMS05 (out), A7 TCK04 (out), A8 TMS04 (out), A10 TDO03 (out), B2 S1 (in), B4 TDI06 (in), B5 TCK05 (out), B6 TDO05 (out), B7 ~{TRST04} (out), B8 TCK03 (out), B9 TMS03 (out), B10 TRIST02 (out), C1 S7 (in), C2 S3 (in), C4 TMS06 (out), C5 ~{TRST05} (out), C6 TDO04 (out), C7 TDI04 (in), C10 TCK02 (out), D1 ADDMASK (in), D2 TRANS (in), D3 S5 (in), D4 S4 (in), D5 ~{TRST06} (out), D6 ~{TRST03} (out), D7 TRIST03 (out), D8 ~{TRST02} (out), D9 TMS02 (out), E2 LSPSEL0 (in), E3 S6 (in), E4 S2 (in), E5 LSPSEL1 (in), E6 TDI05 (in), E7 TDI03 (in), E8 TDO02 (out), E9 TDI02 (in), E10 A101 (in), F1 ~{OE} (in), F2 LSPSEL2 (in), F3 LSPSEL3 (in), F4 SB/~{S} (in), F5 A0B1 (in), F6 A001 (in), F7 ~{RESET} (in), F8 TCK01 (out), F9 Y001 (out), G2 LSPSEL4 (in), G3 LSPSEL6 (in), G4 ~{TRSTB0} (in), G5 A0B0 (in), G6 A1B1 (in), G7 TDO01 (out), G8 TMS01 (out), G9 Y101 (out), G10 TRIST01 (out), H1 LSPSEL5 (in), H4 TMSB0 (in), H5 A1B0 (in), H6 ~{TRSTB1} (in), H7 TRISTB1 (out), H9 TDI01 (in), H10 ~{TRST01} (out), J1 MPSELB1/~{B0} (in), J2 TDOB0 (io), J3 TCKB0 (in), J4 Y1B0 (out), J5 TDOB1 (io), J6 TCKB1 (in), J7 TMSB1 (in), J9 TLR_TRST6 (in), K1 TDIB0 (in), K3 TRISTB0 (out), K4 Y0B0 (out), K6 TDIB1 (in), K8 Y1B1 (out), K9 Y0B1 (out), K10 TLR_TRST (in)
part B pins: A4 VCC (power), A6 GND (power), A9 VCC (power), B1 GND (power), B3 GND (power), C3 VCC (power), C8 GND (power), C9 VCC (power), D10 GND (power), E1 VCC (power), F10 VCC (power), G1 GND (power), H2 VCC (power), H3 GND (power), H8 VCC (power), J8 GND (power), J10 GND (power), K2 VCC (power), K5 GND (power), K7 VCC (power)

## SCANSTA112SMX/NOPB
designator U?
7-Port Multidrop IEEE 1149.1 (JTAG) Multiplexer, 100-pin FBGA, Pb-Free; PartNumber: SCANSTA112SMX/NOPB; Manufacturer: National Semiconductor; PackageTopMarking: NSUZXYTTE#*SCANSTA112*SM; PowerWise: N; CompType: Interface IC; High-Reliability: Y; DatasheetVersion: Oct-2005; PackageVersion: revB, Mar-1999; PackageReference: SLC100A; PackageDescription: FBGA, Plastic, Laminated, 10 x 10 x 1.4mm Body, 100 Ball, 0.8mm Pitch; RoHS: Y; PinCount: 100; ComponentLink1Description: Manufacturer URL; ComponentLink1URL: http://www.national.com/; ComponentLink2Description: SCANSTA112 Datasheet; ComponentLink2URL: http://www.national.com/ds/SC/SCANSTA112.pdf; ComponentLink3Description: SCANSTA112 Web Page; ComponentLink3URL: http://www.national.com/pf/SC/SCANSTA112.html; ComponentLink4Description: SLC100A Package Page; ComponentLink4URL: http://www.national.com/packaging/folders/slc100a.html
footprint SLC100A (BGA, 100-Leads, Body 10x10mm, Pitch 0.8mm)
part A pins: A1 S0 (in), A2 TCK06 (out), A3 TDO06 (out), A5 TMS05 (out), A7 TCK04 (out), A8 TMS04 (out), A10 TDO03 (out), B2 S1 (in), B4 TDI06 (in), B5 TCK05 (out), B6 TDO05 (out), B7 ~{TRST04} (out), B8 TCK03 (out), B9 TMS03 (out), B10 TRIST02 (out), C1 S7 (in), C2 S3 (in), C4 TMS06 (out), C5 ~{TRST05} (out), C6 TDO04 (out), C7 TDI04 (in), C10 TCK02 (out), D1 ADDMASK (in), D2 TRANS (in), D3 S5 (in), D4 S4 (in), D5 ~{TRST06} (out), D6 ~{TRST03} (out), D7 TRIST03 (out), D8 ~{TRST02} (out), D9 TMS02 (out), E2 LSPSEL0 (in), E3 S6 (in), E4 S2 (in), E5 LSPSEL1 (in), E6 TDI05 (in), E7 TDI03 (in), E8 TDO02 (out), E9 TDI02 (in), E10 A101 (in), F1 ~{OE} (in), F2 LSPSEL2 (in), F3 LSPSEL3 (in), F4 SB/~{S} (in), F5 A0B1 (in), F6 A001 (in), F7 ~{RESET} (in), F8 TCK01 (out), F9 Y001 (out), G2 LSPSEL4 (in), G3 LSPSEL6 (in), G4 ~{TRSTB0} (in), G5 A0B0 (in), G6 A1B1 (in), G7 TDO01 (out), G8 TMS01 (out), G9 Y101 (out), G10 TRIST01 (out), H1 LSPSEL5 (in), H4 TMSB0 (in), H5 A1B0 (in), H6 ~{TRSTB1} (in), H7 TRISTB1 (out), H9 TDI01 (in), H10 ~{TRST01} (out), J1 MPSELB1/~{B0} (in), J2 TDOB0 (io), J3 TCKB0 (in), J4 Y1B0 (out), J5 TDOB1 (io), J6 TCKB1 (in), J7 TMSB1 (in), J9 TLR_TRST6 (in), K1 TDIB0 (in), K3 TRISTB0 (out), K4 Y0B0 (out), K6 TDIB1 (in), K8 Y1B1 (out), K9 Y0B1 (out), K10 TLR_TRST (in)
part B pins: A4 VCC (power), A6 GND (power), A9 VCC (power), B1 GND (power), B3 GND (power), C3 VCC (power), C8 GND (power), C9 VCC (power), D10 GND (power), E1 VCC (power), F10 VCC (power), G1 GND (power), H2 VCC (power), H3 GND (power), H8 VCC (power), J8 GND (power), J10 GND (power), K2 VCC (power), K5 GND (power), K7 VCC (power)

## SCANSTA112VS
designator U?
7-Port Multidrop IEEE 1149.1 (JTAG) Multiplexer, 100-pin TQFP; PartNumber: SCANSTA112VS; Manufacturer: National Semiconductor; PackageTopMarking: NSUZXYYTTE#*SCANSTA112*VS; PowerWise: N; CompType: Interface IC; High-Reliability: Y; DatasheetVersion: Oct-2005; PackageVersion: revC, May-2004; PackageReference: VJD100A; PackageDescription: TQFP, Jedec, Metric, 14 x 14 x 1.0mm, 100 Lead; RoHS: N; PinCount: 100; Code_JEDEC: MS-026-AED; ComponentLink1Description: Manufacturer URL; ComponentLink1URL: http://www.national.com/; ComponentLink2Description: SCANSTA112 Datasheet; ComponentLink2URL: http://www.national.com/ds/SC/SCANSTA112.pdf; ComponentLink3Description: SCANSTA112 Web Page; ComponentLink3URL: http://www.national.com/pf/SC/SCANSTA112.html; ComponentLink4Description: VJD100A Package Page; ComponentLink4URL: http://www.national.com/packaging/folders/vjd100a.html
footprint VJD100A_N (Thin QFP, 100-Leads, Body 14x14mm, Pitch 0.5mm, IPC Medium Density)
footprint VJD100A_L (Thin QFP, 100-Leads, Body 14x14mm, Pitch 0.5mm, IPC High Density)
footprint VJD100A_M (Thin QFP, 100-Leads, Body 14x14mm, Pitch 0.5mm, IPC Low Density)
part A pins: 1 S0 (in), 2 S1 (in), 4 S2 (in), 5 S3 (in), 6 S4 (in), 7 S5 (in), 9 S6 (in), 10 S7 (in), 11 ADDMASK (in), 12 TRANS (in), 14 ~{OE} (in), 15 LSPSEL0 (in), 16 LSPSEL1 (in), 17 LSPSEL2 (in), 19 LSPSEL3 (in), 20 LSPSEL4 (in), 21 LSPSEL5 (in), 22 LSPSEL6 (in), 24 MPSELB1/~{B0} (in), 25 SB/~{S} (in), 26 TDIB0 (in), 27 TDOB0 (io), 29 A0B0 (in), 30 TCKB0 (in), 31 ~{TRSTB0} (in), 32 TMSB0 (in), 34 A1B0 (in), 35 TRISTB0 (out), 36 Y0B0 (out), 37 Y1B0 (out), 39 TDIB1 (in), 40 TDOB1 (io), 41 A0B1 (in), 42 TCKB1 (in), 44 ~{TRSTB1} (in), 45 TMSB1 (in), 46 Y1B1 (out), 47 TRISTB1 (out), 49 Y0B1 (out), 50 A1B1 (in), 51 TLR_TRST (in), 52 TLR_TRST6 (in), 54 ~{RESET} (in), 55 TDI01 (in), 56 TDO01 (out), 57 TMS01 (out), 59 TCK01 (out), 60 ~{TRST01} (out), 61 TRIST01 (out), 62 Y101 (out), 64 A101 (in), 65 Y001 (out), 66 A001 (in), 67 TDI02 (in), 69 TDO02 (out), 70 TMS02 (out), 71 TCK02 (out), 72 ~{TRST02} (out), 74 TRIST02 (out), 75 TDI03 (in), 76 TDO03 (out), 77 TMS03 (out), 79 ~{TRST03} (out), 80 TCK03 (out), 81 TRIST03 (out), 82 TDI04 (in), 84 TDO04 (out), 85 TMS04 (out), 86 TCK04 (out), 87 ~{TRST04} (out), 89 TMS05 (out), 90 TDO05 (out), 91 TDI05 (in), 92 TCK05 (out), 94 ~{TRST05} (out), 95 TDI06 (in), 96 TDO06 (out), 97 TMS06 (out), 99 TCK06 (out), 100 ~{TRST06} (out)
part B pins: 3 VCC (power), 8 GND (power), 13 VCC (power), 18 GND (power), 23 VCC (power), 28 GND (power), 33 VCC (power), 38 GND (power), 43 VCC (power), 48 GND (power), 53 VCC (power), 58 GND (power), 63 VCC (power), 68 GND (power), 73 VCC (power), 78 GND (power), 83 VCC (power), 88 GND (power), 93 VCC (power), 98 GND (power)

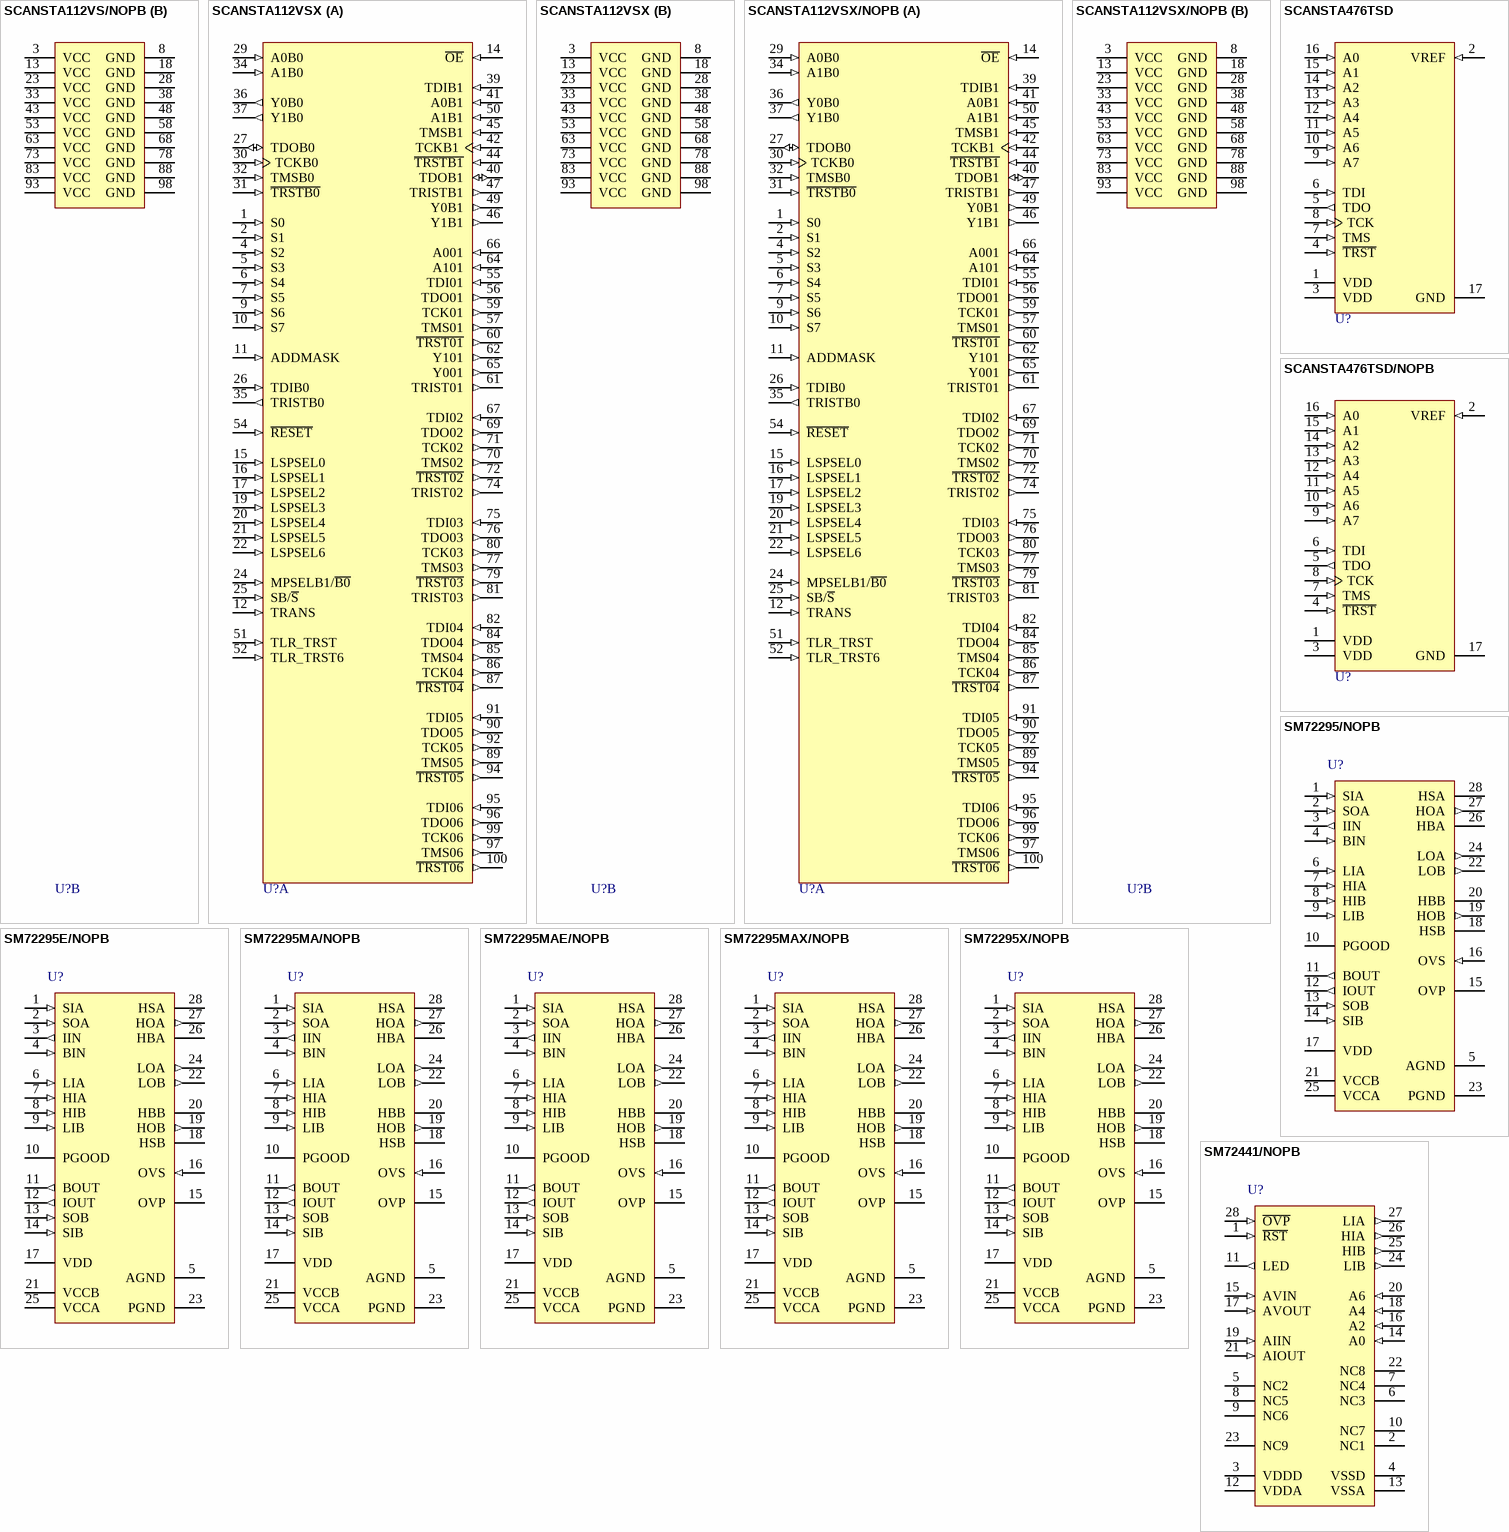
[diagram p123: symbols SCANSTA112VS/NOPB to SM72441/NOPB]

## SCANSTA112VS/NOPB
designator U?
7-Port Multidrop IEEE 1149.1 (JTAG) Multiplexer, 100-pin TQFP, Pb-Free; PartNumber: SCANSTA112VS/NOPB; Manufacturer: National Semiconductor; PackageTopMarking: NSUZXYYTTE#*SCANSTA112*VS; PowerWise: N; CompType: Interface IC; High-Reliability: Y; DatasheetVersion: Oct-2005; PackageVersion: revC, May-2004; PackageReference: VJD100A; PackageDescription: TQFP, Jedec, Metric, 14 x 14 x 1.0mm, 100 Lead; RoHS: Y; PinCount: 100; Code_JEDEC: MS-026-AED; ComponentLink1Description: Manufacturer URL; ComponentLink1URL: http://www.national.com/; ComponentLink2Description: SCANSTA112 Datasheet; ComponentLink2URL: http://www.national.com/ds/SC/SCANSTA112.pdf; ComponentLink3Description: SCANSTA112 Web Page; ComponentLink3URL: http://www.national.com/pf/SC/SCANSTA112.html; ComponentLink4Description: VJD100A Package Page; ComponentLink4URL: http://www.national.com/packaging/folders/vjd100a.html
footprint VJD100A_N (Thin QFP, 100-Leads, Body 14x14mm, Pitch 0.5mm, IPC Medium Density)
footprint VJD100A_L (Thin QFP, 100-Leads, Body 14x14mm, Pitch 0.5mm, IPC High Density)
footprint VJD100A_M (Thin QFP, 100-Leads, Body 14x14mm, Pitch 0.5mm, IPC Low Density)
part A pins: 1 S0 (in), 2 S1 (in), 4 S2 (in), 5 S3 (in), 6 S4 (in), 7 S5 (in), 9 S6 (in), 10 S7 (in), 11 ADDMASK (in), 12 TRANS (in), 14 ~{OE} (in), 15 LSPSEL0 (in), 16 LSPSEL1 (in), 17 LSPSEL2 (in), 19 LSPSEL3 (in), 20 LSPSEL4 (in), 21 LSPSEL5 (in), 22 LSPSEL6 (in), 24 MPSELB1/~{B0} (in), 25 SB/~{S} (in), 26 TDIB0 (in), 27 TDOB0 (io), 29 A0B0 (in), 30 TCKB0 (in), 31 ~{TRSTB0} (in), 32 TMSB0 (in), 34 A1B0 (in), 35 TRISTB0 (out), 36 Y0B0 (out), 37 Y1B0 (out), 39 TDIB1 (in), 40 TDOB1 (io), 41 A0B1 (in), 42 TCKB1 (in), 44 ~{TRSTB1} (in), 45 TMSB1 (in), 46 Y1B1 (out), 47 TRISTB1 (out), 49 Y0B1 (out), 50 A1B1 (in), 51 TLR_TRST (in), 52 TLR_TRST6 (in), 54 ~{RESET} (in), 55 TDI01 (in), 56 TDO01 (out), 57 TMS01 (out), 59 TCK01 (out), 60 ~{TRST01} (out), 61 TRIST01 (out), 62 Y101 (out), 64 A101 (in), 65 Y001 (out), 66 A001 (in), 67 TDI02 (in), 69 TDO02 (out), 70 TMS02 (out), 71 TCK02 (out), 72 ~{TRST02} (out), 74 TRIST02 (out), 75 TDI03 (in), 76 TDO03 (out), 77 TMS03 (out), 79 ~{TRST03} (out), 80 TCK03 (out), 81 TRIST03 (out), 82 TDI04 (in), 84 TDO04 (out), 85 TMS04 (out), 86 TCK04 (out), 87 ~{TRST04} (out), 89 TMS05 (out), 90 TDO05 (out), 91 TDI05 (in), 92 TCK05 (out), 94 ~{TRST05} (out), 95 TDI06 (in), 96 TDO06 (out), 97 TMS06 (out), 99 TCK06 (out), 100 ~{TRST06} (out)
part B pins: 3 VCC (power), 8 GND (power), 13 VCC (power), 18 GND (power), 23 VCC (power), 28 GND (power), 33 VCC (power), 38 GND (power), 43 VCC (power), 48 GND (power), 53 VCC (power), 58 GND (power), 63 VCC (power), 68 GND (power), 73 VCC (power), 78 GND (power), 83 VCC (power), 88 GND (power), 93 VCC (power), 98 GND (power)

## SCANSTA112VSX
designator U?
7-Port Multidrop IEEE 1149.1 (JTAG) Multiplexer, 100-pin TQFP; PartNumber: SCANSTA112VSX; Manufacturer: National Semiconductor; PackageTopMarking: NSUZXYYTTE#*SCANSTA112*VS; PowerWise: N; CompType: Interface IC; High-Reliability: Y; DatasheetVersion: Oct-2005; PackageVersion: revC, May-2004; PackageReference: VJD100A; PackageDescription: TQFP, Jedec, Metric, 14 x 14 x 1.0mm, 100 Lead; RoHS: N; PinCount: 100; Code_JEDEC: MS-026-AED; ComponentLink1Description: Manufacturer URL; ComponentLink1URL: http://www.national.com/; ComponentLink2Description: SCANSTA112 Datasheet; ComponentLink2URL: http://www.national.com/ds/SC/SCANSTA112.pdf; ComponentLink3Description: SCANSTA112 Web Page; ComponentLink3URL: http://www.national.com/pf/SC/SCANSTA112.html; ComponentLink4Description: VJD100A Package Page; ComponentLink4URL: http://www.national.com/packaging/folders/vjd100a.html
footprint VJD100A_N (Thin QFP, 100-Leads, Body 14x14mm, Pitch 0.5mm, IPC Medium Density)
footprint VJD100A_L (Thin QFP, 100-Leads, Body 14x14mm, Pitch 0.5mm, IPC High Density)
footprint VJD100A_M (Thin QFP, 100-Leads, Body 14x14mm, Pitch 0.5mm, IPC Low Density)
part A pins: 1 S0 (in), 2 S1 (in), 4 S2 (in), 5 S3 (in), 6 S4 (in), 7 S5 (in), 9 S6 (in), 10 S7 (in), 11 ADDMASK (in), 12 TRANS (in), 14 ~{OE} (in), 15 LSPSEL0 (in), 16 LSPSEL1 (in), 17 LSPSEL2 (in), 19 LSPSEL3 (in), 20 LSPSEL4 (in), 21 LSPSEL5 (in), 22 LSPSEL6 (in), 24 MPSELB1/~{B0} (in), 25 SB/~{S} (in), 26 TDIB0 (in), 27 TDOB0 (io), 29 A0B0 (in), 30 TCKB0 (in), 31 ~{TRSTB0} (in), 32 TMSB0 (in), 34 A1B0 (in), 35 TRISTB0 (out), 36 Y0B0 (out), 37 Y1B0 (out), 39 TDIB1 (in), 40 TDOB1 (io), 41 A0B1 (in), 42 TCKB1 (in), 44 ~{TRSTB1} (in), 45 TMSB1 (in), 46 Y1B1 (out), 47 TRISTB1 (out), 49 Y0B1 (out), 50 A1B1 (in), 51 TLR_TRST (in), 52 TLR_TRST6 (in), 54 ~{RESET} (in), 55 TDI01 (in), 56 TDO01 (out), 57 TMS01 (out), 59 TCK01 (out), 60 ~{TRST01} (out), 61 TRIST01 (out), 62 Y101 (out), 64 A101 (in), 65 Y001 (out), 66 A001 (in), 67 TDI02 (in), 69 TDO02 (out), 70 TMS02 (out), 71 TCK02 (out), 72 ~{TRST02} (out), 74 TRIST02 (out), 75 TDI03 (in), 76 TDO03 (out), 77 TMS03 (out), 79 ~{TRST03} (out), 80 TCK03 (out), 81 TRIST03 (out), 82 TDI04 (in), 84 TDO04 (out), 85 TMS04 (out), 86 TCK04 (out), 87 ~{TRST04} (out), 89 TMS05 (out), 90 TDO05 (out), 91 TDI05 (in), 92 TCK05 (out), 94 ~{TRST05} (out), 95 TDI06 (in), 96 TDO06 (out), 97 TMS06 (out), 99 TCK06 (out), 100 ~{TRST06} (out)
part B pins: 3 VCC (power), 8 GND (power), 13 VCC (power), 18 GND (power), 23 VCC (power), 28 GND (power), 33 VCC (power), 38 GND (power), 43 VCC (power), 48 GND (power), 53 VCC (power), 58 GND (power), 63 VCC (power), 68 GND (power), 73 VCC (power), 78 GND (power), 83 VCC (power), 88 GND (power), 93 VCC (power), 98 GND (power)

## SCANSTA112VSX/NOPB
designator U?
7-Port Multidrop IEEE 1149.1 (JTAG) Multiplexer, 100-pin TQFP, Pb-Free; PartNumber: SCANSTA112VSX/NOPB; Manufacturer: National Semiconductor; PackageTopMarking: NSUZXYYTTE#*SCANSTA112*VS; PowerWise: N; CompType: Interface IC; High-Reliability: Y; DatasheetVersion: Oct-2005; PackageVersion: revC, May-2004; PackageReference: VJD100A; PackageDescription: TQFP, Jedec, Metric, 14 x 14 x 1.0mm, 100 Lead; RoHS: Y; PinCount: 100; Code_JEDEC: MS-026-AED; ComponentLink1Description: Manufacturer URL; ComponentLink1URL: http://www.national.com/; ComponentLink2Description: SCANSTA112 Datasheet; ComponentLink2URL: http://www.national.com/ds/SC/SCANSTA112.pdf; ComponentLink3Description: SCANSTA112 Web Page; ComponentLink3URL: http://www.national.com/pf/SC/SCANSTA112.html; ComponentLink4Description: VJD100A Package Page; ComponentLink4URL: http://www.national.com/packaging/folders/vjd100a.html
footprint VJD100A_N (Thin QFP, 100-Leads, Body 14x14mm, Pitch 0.5mm, IPC Medium Density)
footprint VJD100A_L (Thin QFP, 100-Leads, Body 14x14mm, Pitch 0.5mm, IPC High Density)
footprint VJD100A_M (Thin QFP, 100-Leads, Body 14x14mm, Pitch 0.5mm, IPC Low Density)
part A pins: 1 S0 (in), 2 S1 (in), 4 S2 (in), 5 S3 (in), 6 S4 (in), 7 S5 (in), 9 S6 (in), 10 S7 (in), 11 ADDMASK (in), 12 TRANS (in), 14 ~{OE} (in), 15 LSPSEL0 (in), 16 LSPSEL1 (in), 17 LSPSEL2 (in), 19 LSPSEL3 (in), 20 LSPSEL4 (in), 21 LSPSEL5 (in), 22 LSPSEL6 (in), 24 MPSELB1/~{B0} (in), 25 SB/~{S} (in), 26 TDIB0 (in), 27 TDOB0 (io), 29 A0B0 (in), 30 TCKB0 (in), 31 ~{TRSTB0} (in), 32 TMSB0 (in), 34 A1B0 (in), 35 TRISTB0 (out), 36 Y0B0 (out), 37 Y1B0 (out), 39 TDIB1 (in), 40 TDOB1 (io), 41 A0B1 (in), 42 TCKB1 (in), 44 ~{TRSTB1} (in), 45 TMSB1 (in), 46 Y1B1 (out), 47 TRISTB1 (out), 49 Y0B1 (out), 50 A1B1 (in), 51 TLR_TRST (in), 52 TLR_TRST6 (in), 54 ~{RESET} (in), 55 TDI01 (in), 56 TDO01 (out), 57 TMS01 (out), 59 TCK01 (out), 60 ~{TRST01} (out), 61 TRIST01 (out), 62 Y101 (out), 64 A101 (in), 65 Y001 (out), 66 A001 (in), 67 TDI02 (in), 69 TDO02 (out), 70 TMS02 (out), 71 TCK02 (out), 72 ~{TRST02} (out), 74 TRIST02 (out), 75 TDI03 (in), 76 TDO03 (out), 77 TMS03 (out), 79 ~{TRST03} (out), 80 TCK03 (out), 81 TRIST03 (out), 82 TDI04 (in), 84 TDO04 (out), 85 TMS04 (out), 86 TCK04 (out), 87 ~{TRST04} (out), 89 TMS05 (out), 90 TDO05 (out), 91 TDI05 (in), 92 TCK05 (out), 94 ~{TRST05} (out), 95 TDI06 (in), 96 TDO06 (out), 97 TMS06 (out), 99 TCK06 (out), 100 ~{TRST06} (out)
part B pins: 3 VCC (power), 8 GND (power), 13 VCC (power), 18 GND (power), 23 VCC (power), 28 GND (power), 33 VCC (power), 38 GND (power), 43 VCC (power), 48 GND (power), 53 VCC (power), 58 GND (power), 63 VCC (power), 68 GND (power), 73 VCC (power), 78 GND (power), 83 VCC (power), 88 GND (power), 93 VCC (power), 98 GND (power)

## SCANSTA476TSD
designator U?
Eight Input IEEE 1149.1 Analog Voltage Monitor, 16-pin LLP; PartNumber: SCANSTA476TSD; Manufacturer: National Semiconductor; PackageTopMarking: NS*UZXYTT*STA476T; PowerWise: N; CompType: Interface IC; High-Reliability: Y; DatasheetVersion: Aug-2005; PackageVersion: revA, May-2003; PackageReference: SDA16A; PackageDescription: LLP, Plastic, Dual, 5 x 5 x 0.8mm Body,16 Lead, 0.5mm Pitch, No Pullback; RoHS: N; PinCount: 16; ComponentLink1Description: Manufacturer URL; ComponentLink1URL: http://www.national.com/; ComponentLink2Description: SCANSTA476 Datasheet; ComponentLink2URL: http://www.national.com/ds/SC/SCANSTA476.pdf; ComponentLink3Description: SCANSTA476 Web Page; ComponentLink3URL: http://www.national.com/pf/SC/SCANSTA476.html; ComponentLink4Description: SDA16A Package Page; ComponentLink4URL: http://www.national.com/packaging/folders/sda16a.html
footprint SDA16A (SON, 16-Leads, Body 5x5mm, Pitch 0.5mm, NSC Recommended)
pins: 1 VDD (power), 2 VREF (in), 3 VDD (power), 4 ~{TRST} (in), 5 TDO (out), 6 TDI (in), 7 TMS (in), 8 TCK (in), 9 A7 (in), 10 A6 (in), 11 A5 (in), 12 A4 (in), 13 A3 (in), 14 A2 (in), 15 A1 (in), 16 A0 (in), 17 GND (power)

## SCANSTA476TSD/NOPB
designator U?
Eight Input IEEE 1149.1 Analog Voltage Monitor, 16-pin LLP, Pb-Free; PartNumber: SCANSTA476TSD/NOPB; Manufacturer: National Semiconductor; PackageTopMarking: NS*UZXYTT*STA476T; PowerWise: N; CompType: Interface IC; High-Reliability: Y; DatasheetVersion: Aug-2005; PackageVersion: revA, May-2003; PackageReference: SDA16A; PackageDescription: LLP, Plastic, Dual, 5 x 5 x 0.8mm Body,16 Lead, 0.5mm Pitch, No Pullback; RoHS: Y; PinCount: 16; ComponentLink1Description: Manufacturer URL; ComponentLink1URL: http://www.national.com/; ComponentLink2Description: SCANSTA476 Datasheet; ComponentLink2URL: http://www.national.com/ds/SC/SCANSTA476.pdf; ComponentLink3Description: SCANSTA476 Web Page; ComponentLink3URL: http://www.national.com/pf/SC/SCANSTA476.html; ComponentLink4Description: SDA16A Package Page; ComponentLink4URL: http://www.national.com/packaging/folders/sda16a.html
footprint SDA16A (SON, 16-Leads, Body 5x5mm, Pitch 0.5mm, NSC Recommended)
pins: 1 VDD (power), 2 VREF (in), 3 VDD (power), 4 ~{TRST} (in), 5 TDO (out), 6 TDI (in), 7 TMS (in), 8 TCK (in), 9 A7 (in), 10 A6 (in), 11 A5 (in), 12 A4 (in), 13 A3 (in), 14 A2 (in), 15 A1 (in), 16 A0 (in), 17 GND (power)